# Altium integrated library Xilinx XC3000.IntLib: 584 symbols (part 8 of 27)
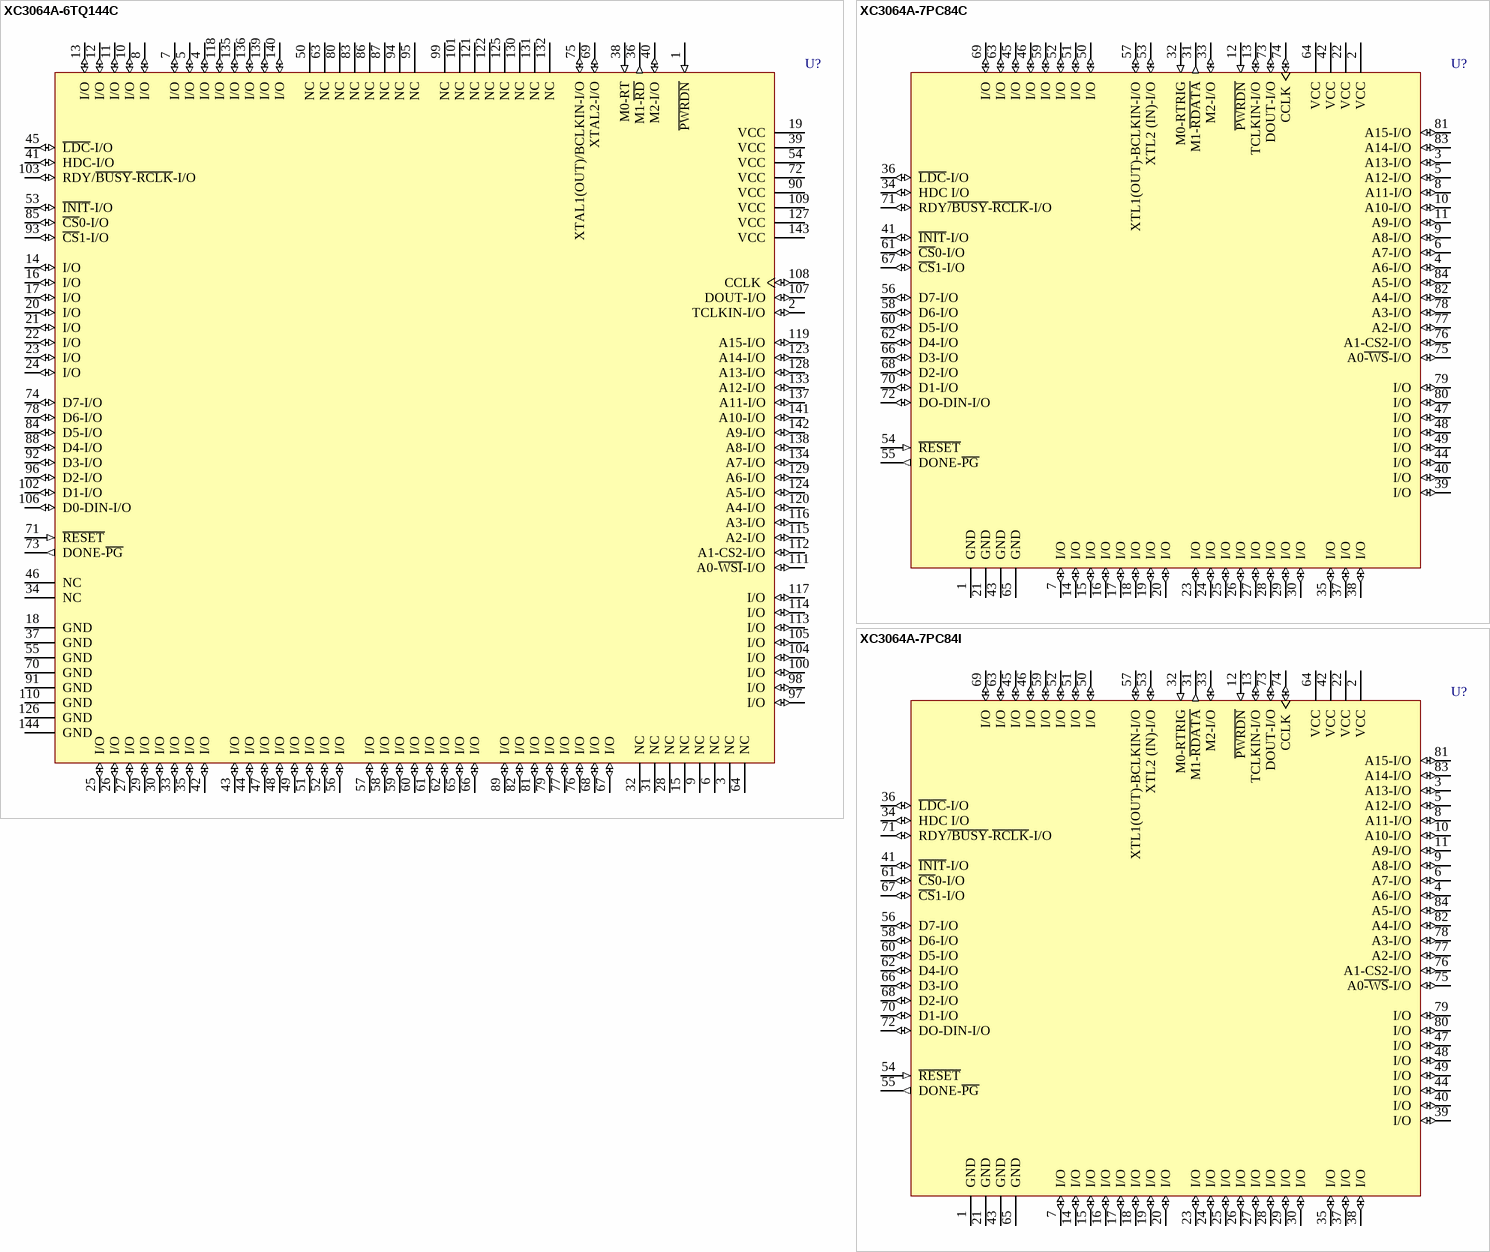
[diagram p324: symbols XC3064A-6TQ144C to XC3064A-7PC84I]

## XC3064A-7PC84I
designator U?
Logic Cell Array with 224 CLBs, with 70 I/O Pins, 84-Pin PLCC, Industrial Grade; PackageDocument: ver1.0, Jun-2000; Published: 8-Jun-2000; LatestRevisionDate: 17-Sep-2003; LatestRevisionNote: PCB Footprint dimensions updated; DatasheetDocument: 1994; PackageReference: PC84; Publisher: Altium Limited; Code_JEDEC: MS-047; Code_IPC: PLCC-84
footprint PC84 (84-Pin Plastic Leaded Chip Carrier (PC84))
pins: 1 GND (power), 2 VCC (power), 3 A13-I/O (io), 4 A6-I/O (io), 5 A12-I/O (io), 6 A7-I/O (io), 7 I/O (io), 8 A11-I/O (io), 9 A8-I/O (io), 10 A10-I/O (io), 11 A9-I/O (io), 12 ~{PWRDN} (in), 13 TCLKIN-I/O (io), 14 I/O (io), 15 I/O (io), 16 I/O (io), 17 I/O (io), 18 I/O (io), 19 I/O (io), 20 I/O (io), 21 GND (power), 22 VCC (power), 23 I/O (io), 24 I/O (io), 25 I/O (io), 26 I/O (io), 27 I/O (io), 28 I/O (io), 29 I/O (io), 30 I/O (io), 31 M1-~{RDATA} (out), 32 M0-RTRIG (in), 33 M2-I/O (io), 34 HDC I/O (io), 35 I/O (io), 36 ~{LDC}-I/O (io), 37 I/O (io), 38 I/O (io), 39 I/O (io), 40 I/O (io), 41 ~{INIT}-I/O (io), 42 VCC (power), 43 GND (power), 44 I/O (io), 45 I/O (io), 46 I/O (io), 47 I/O (io), 48 I/O (io), 49 I/O (io), 50 I/O (io), 51 I/O (io), 52 I/O (io), 53 XTL2 (IN)-I/O (io), 54 ~{RESET} (in), 55 DONE-~{PG} (out), 56 D7-I/O (io), 57 XTL1(OUT)-BCLKIN-I/O (io), 58 D6-I/O (io), 59 I/O (io), 60 D5-I/O (io), 61 ~{CS}0-I/O (io), 62 D4-I/O (io), 63 I/O (io), 64 VCC (power), 65 GND (power), 66 D3-I/O (io), 67 ~{CS}1-I/O (io), 68 D2-I/O (io), 69 I/O (io), 70 D1-I/O (io), 71 RDY~{/BUSY}-~{RCLK}-I/O (io), 72 DO-DIN-I/O (io), 73 DOUT-I/O (io), 74 CCLK (io), 75 A0~{-WS}-I/O (io), 76 A1-CS2-I/O (io), 77 A2-I/O (io), 78 A3-I/O (io), 79 I/O (io), 80 I/O (io), 81 A15-I/O (io), 82 A4-I/O (io), 83 A14-I/O (io), 84 A5-I/O (io)

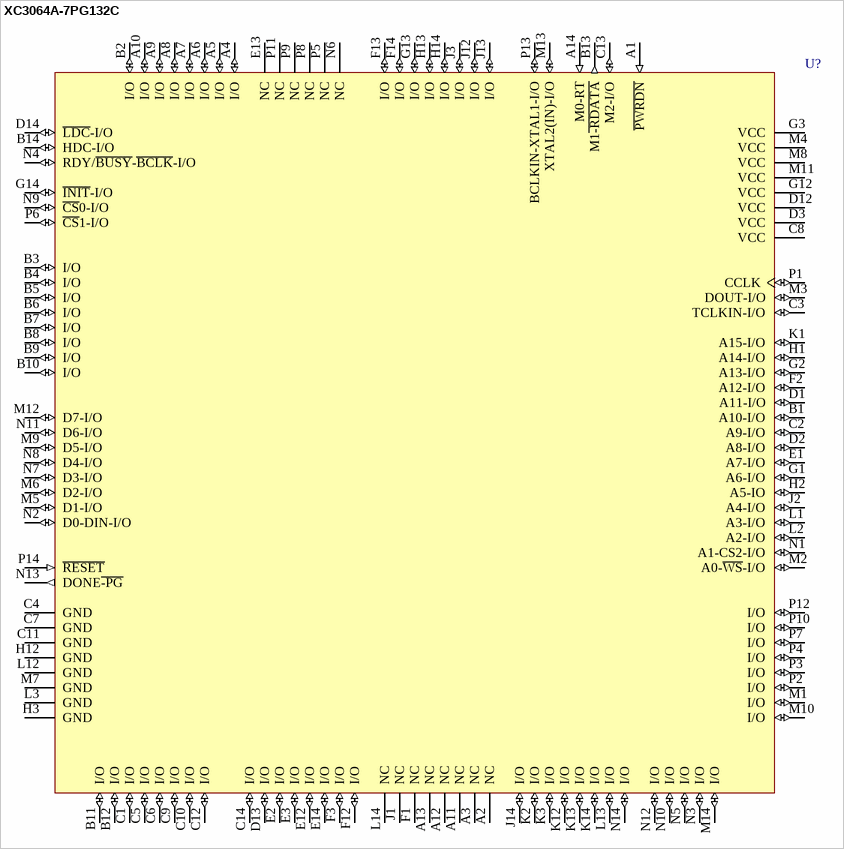
[diagram p69: symbol XC3064A-7PG132C]

## XC3064A-7PG132C
designator U?
Logic Cell Array with 224 CLBs, with 96 I/O Pins, 132-Pin PGA, Commercial Grade; PackageDocument: ver1.1, Apr-2001; Published: 8-Jun-2000; LatestRevisionDate: 17-Jul-2002; LatestRevisionNote: Re-released for DXP Platform.; DatasheetDocument: 1994; PackageReference: PG132; Publisher: Altium Limited; Code_JEDEC: MO-067-AF
footprint PG132 (132-Pin Ceramic PGA (PG132))
pins: A1 ~{PWRDN} (in), A2 NC, A3 NC, A4 I/O (io), A5 I/O (io), A6 I/O (io), A7 I/O (io), A8 I/O (io), A9 I/O (io), A10 I/O (io), A11 NC, A12 NC, A13 NC, A14 M0-RT (in), B1 A10-I/O (io), B2 I/O (io), B3 I/O (io), B4 I/O (io), B5 I/O (io), B6 I/O (io), B7 I/O (io), B8 I/O (io), B9 I/O (io), B10 I/O (io), B11 I/O (io), B12 I/O (io), B13 M1~{-RDATA} (out), B14 HDC-I/O (io), C1 I/O (io), C2 A9-I/O (io), C3 TCLKIN-I/O (io), C4 GND (power), C5 I/O (io), C6 I/O (io), C7 GND (power), C8 VCC (power), C9 I/O (io), C10 I/O (io), C11 GND (power), C12 I/O (io), C13 M2-I/O (io), C14 I/O (io), D1 A11-I/O (io), D2 A8-I/O (io), D3 VCC (power), D12 VCC (power), D13 I/O (io), D14 ~{LDC}-I/O (io), E1 A7-I/O (io), E2 I/O (io), E3 I/O (io), E12 I/O (io), E13 NC, E14 I/O (io), F1 NC, F2 A12-I/O (io), F3 I/O (io), F12 I/O (io), F13 I/O (io), F14 I/O (io), G1 A6-I/O (io), G2 A13-I/O (io), G3 VCC (power), G12 VCC (power), G13 I/O (io), G14 ~{INIT}-I/O (io), H1 A14-I/O (io), H2 A5-IO (io), H3 GND (power), H12 GND (power), H13 I/O (io), H14 I/O (io), J1 NC, J2 A4-I/O (io), J3 I/O (io), J12 I/O (io), J13 I/O (io), J14 I/O (io), K1 A15-I/O (io), K2 I/O (io), K3 I/O (io), K12 I/O (io), K13 I/O (io), K14 I/O (io), L1 A3-I/O (io), L2 A2-I/O (io), L3 GND (power), L12 GND (power), L13 I/O (io), L14 NC, M1 I/O (io), M2 A0-~{WS}-I/O (io), M3 DOUT-I/O (io), M4 VCC (power), M5 D1-I/O (io), M6 D2-I/O (io), M7 GND (power), M8 VCC (power), M9 D5-I/O (io), M10 I/O (io), M11 VCC (power), M12 D7-I/O (io), M13 XTAL2(IN)-I/O (io), M14 I/O (io), N1 A1-CS2-I/O (io), N2 D0-DIN-I/O (io), N3 I/O (io), N4 RDY/~{BUSY}-~{BCLK}-I/O (io), N5 I/O (io), N6 NC, N7 D3-I/O (io), N8 D4-I/O (io), N9 ~{CS}0-I/O (io), N10 I/O (io), N11 D6-I/O (io), N12 I/O (io), N13 DONE~{-PG} (out), N14 I/O (io), P1 CCLK (io), P2 I/O (io), P3 I/O (io), P4 I/O (io), P5 NC, P6 ~{CS}1-I/O (io), P7 I/O (io), P8 NC, P9 NC, P10 I/O (io), P11 NC, P12 I/O (io), P13 BCLKIN-XTAL1-I/O (io), P14 ~{RESET} (in)

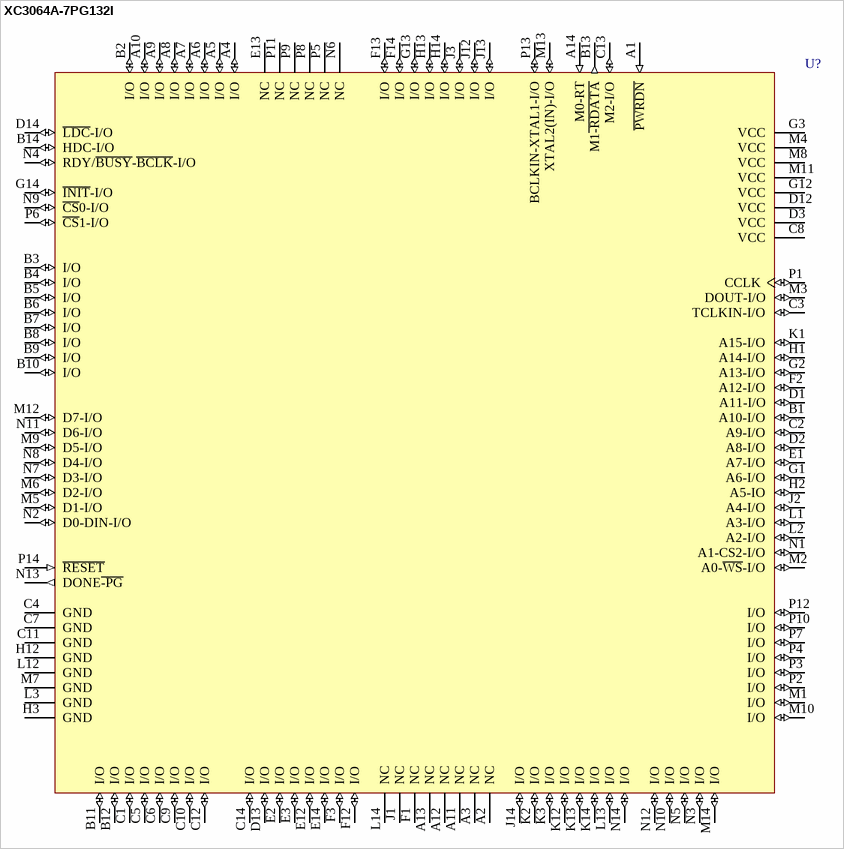
[diagram p70: symbol XC3064A-7PG132I]

## XC3064A-7PG132I
designator U?
Logic Cell Array with 224 CLBs, with 96 I/O Pins, 132-Pin PGA, Industrial Grade; PackageDocument: ver1.1, Apr-2001; Published: 8-Jun-2000; LatestRevisionDate: 17-Jul-2002; LatestRevisionNote: Re-released for DXP Platform.; DatasheetDocument: 1994; PackageReference: PG132; Publisher: Altium Limited; Code_JEDEC: MO-067-AF
footprint PG132 (132-Pin Ceramic PGA (PG132))
pins: A1 ~{PWRDN} (in), A2 NC, A3 NC, A4 I/O (io), A5 I/O (io), A6 I/O (io), A7 I/O (io), A8 I/O (io), A9 I/O (io), A10 I/O (io), A11 NC, A12 NC, A13 NC, A14 M0-RT (in), B1 A10-I/O (io), B2 I/O (io), B3 I/O (io), B4 I/O (io), B5 I/O (io), B6 I/O (io), B7 I/O (io), B8 I/O (io), B9 I/O (io), B10 I/O (io), B11 I/O (io), B12 I/O (io), B13 M1~{-RDATA} (out), B14 HDC-I/O (io), C1 I/O (io), C2 A9-I/O (io), C3 TCLKIN-I/O (io), C4 GND (power), C5 I/O (io), C6 I/O (io), C7 GND (power), C8 VCC (power), C9 I/O (io), C10 I/O (io), C11 GND (power), C12 I/O (io), C13 M2-I/O (io), C14 I/O (io), D1 A11-I/O (io), D2 A8-I/O (io), D3 VCC (power), D12 VCC (power), D13 I/O (io), D14 ~{LDC}-I/O (io), E1 A7-I/O (io), E2 I/O (io), E3 I/O (io), E12 I/O (io), E13 NC, E14 I/O (io), F1 NC, F2 A12-I/O (io), F3 I/O (io), F12 I/O (io), F13 I/O (io), F14 I/O (io), G1 A6-I/O (io), G2 A13-I/O (io), G3 VCC (power), G12 VCC (power), G13 I/O (io), G14 ~{INIT}-I/O (io), H1 A14-I/O (io), H2 A5-IO (io), H3 GND (power), H12 GND (power), H13 I/O (io), H14 I/O (io), J1 NC, J2 A4-I/O (io), J3 I/O (io), J12 I/O (io), J13 I/O (io), J14 I/O (io), K1 A15-I/O (io), K2 I/O (io), K3 I/O (io), K12 I/O (io), K13 I/O (io), K14 I/O (io), L1 A3-I/O (io), L2 A2-I/O (io), L3 GND (power), L12 GND (power), L13 I/O (io), L14 NC, M1 I/O (io), M2 A0-~{WS}-I/O (io), M3 DOUT-I/O (io), M4 VCC (power), M5 D1-I/O (io), M6 D2-I/O (io), M7 GND (power), M8 VCC (power), M9 D5-I/O (io), M10 I/O (io), M11 VCC (power), M12 D7-I/O (io), M13 XTAL2(IN)-I/O (io), M14 I/O (io), N1 A1-CS2-I/O (io), N2 D0-DIN-I/O (io), N3 I/O (io), N4 RDY/~{BUSY}-~{BCLK}-I/O (io), N5 I/O (io), N6 NC, N7 D3-I/O (io), N8 D4-I/O (io), N9 ~{CS}0-I/O (io), N10 I/O (io), N11 D6-I/O (io), N12 I/O (io), N13 DONE~{-PG} (out), N14 I/O (io), P1 CCLK (io), P2 I/O (io), P3 I/O (io), P4 I/O (io), P5 NC, P6 ~{CS}1-I/O (io), P7 I/O (io), P8 NC, P9 NC, P10 I/O (io), P11 NC, P12 I/O (io), P13 BCLKIN-XTAL1-I/O (io), P14 ~{RESET} (in)

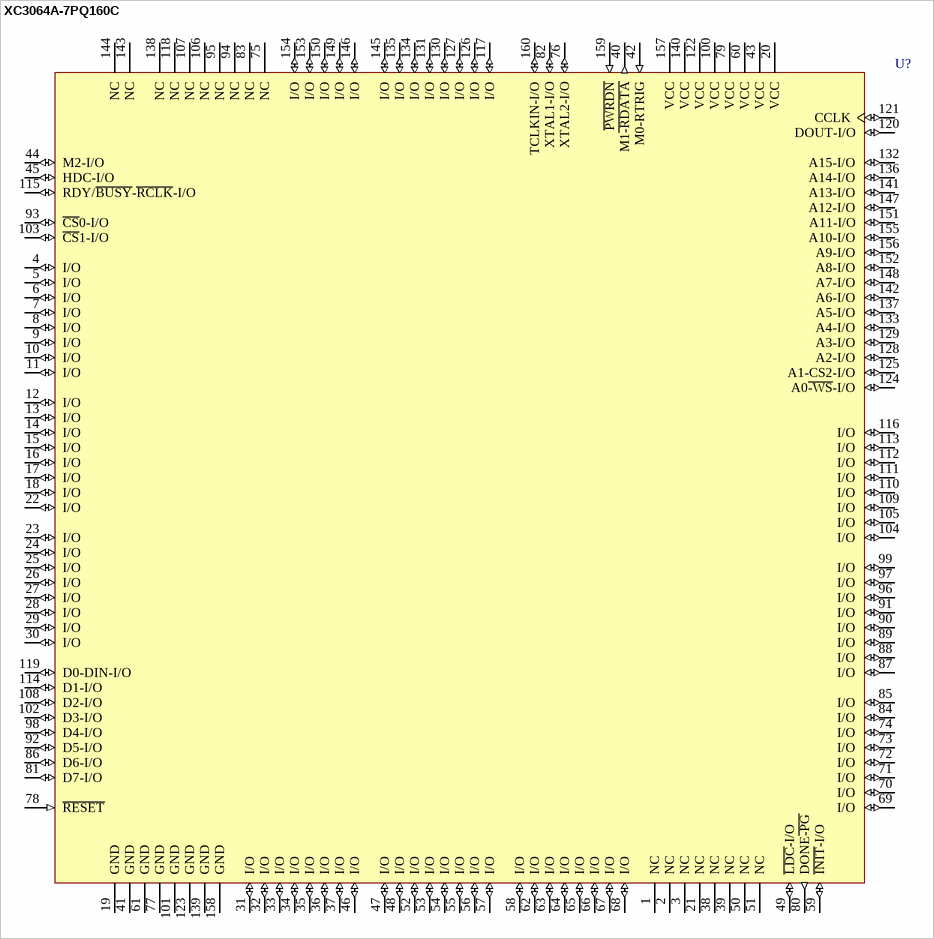
[diagram p71: symbol XC3064A-7PQ160C]

## XC3064A-7PQ160C
designator U?
Logic Cell Array with 224 CLBs, with 120 I/O Pins, 160-Pin PQFP, Commercial Grade; PackageDocument: ver1.1, Oct-2002; Published: 8-Jun-2000; LatestRevisionDate: 17-Jul-2002; LatestRevisionNote: PCB footprint, 'QFP28x28-G160/D28N' replaced; Re-released for DXP Platform.; DatasheetDocument: 1994; PackageReference: PQ160; Publisher: Altium Limited; Code_JEDEC: MS-022-DD1
footprint PQ160 (160-Pin Plastic Quad Flat Pack (PQ160))
pins: 1 NC, 2 NC, 3 NC, 4 I/O (io), 5 I/O (io), 6 I/O (io), 7 I/O (io), 8 I/O (io), 9 I/O (io), 10 I/O (io), 11 I/O (io), 12 I/O (io), 13 I/O (io), 14 I/O (io), 15 I/O (io), 16 I/O (io), 17 I/O (io), 18 I/O (io), 19 GND (power), 20 VCC (power), 21 NC, 22 I/O (io), 23 I/O (io), 24 I/O (io), 25 I/O (io), 26 I/O (io), 27 I/O (io), 28 I/O (io), 29 I/O (io), 30 I/O (io), 31 I/O (io), 32 I/O (io), 33 I/O (io), 34 I/O (io), 35 I/O (io), 36 I/O (io), 37 I/O (io), 38 NC, 39 NC, 40 M1~{-RDATA} (out), 41 GND (power), 42 M0-RTRIG (in), 43 VCC (power), 44 M2-I/O (io), 45 HDC-I/O (io), 46 I/O (io), 47 I/O (io), 48 I/O (io), 49 ~{LDC}-I/O (io), 50 NC, 51 NC, 52 I/O (io), 53 I/O (io), 54 I/O (io), 55 I/O (io), 56 I/O (io), 57 I/O (io), 58 I/O (io), 59 ~{INIT}-I/O (io), 60 VCC (power), 61 GND (power), 62 I/O (io), 63 I/O (io), 64 I/O (io), 65 I/O (io), 66 I/O (io), 67 I/O (io), 68 I/O (io), 69 I/O (io), 70 I/O (io), 71 I/O (io), 72 I/O (io), 73 I/O (io), 74 I/O (io), 75 NC, 76 XTAL2-I/O (io), 77 GND (power), 78 ~{RESET} (in), 79 VCC (power), 80 DONE~{-PG} (out), 81 D7-I/O (io), 82 XTAL1-I/O (io), 83 NC, 84 I/O (io), 85 I/O (io), 86 D6-I/O (io), 87 I/O (io), 88 I/O (io), 89 I/O (io), 90 I/O (io), 91 I/O (io), 92 D5-I/O (io), 93 ~{CS}0-I/O (io), 94 NC, 95 NC, 96 I/O (io), 97 I/O (io), 98 D4-I/O (io), 99 I/O (io), 100 VCC (power), 101 GND (power), 102 D3-I/O (io), 103 ~{CS}1-I/O (io), 104 I/O (io), 105 I/O (io), 106 NC, 107 NC, 108 D2-I/O (io), 109 I/O (io), 110 I/O (io), 111 I/O (io), 112 I/O (io), 113 I/O (io), 114 D1-I/O (io), 115 RDY/~{BUSY}-~{RCLK}-I/O (io), 116 I/O (io), 117 I/O (io), 118 NC, 119 D0-DIN-I/O (io), 120 DOUT-I/O (io), 121 CCLK (io), 122 VCC (power), 123 GND (power), 124 A0~{-WS}-I/O (io), 125 A1-CS2-I/O (io), 126 I/O (io), 127 I/O (io), 128 A2-I/O (io), 129 A3-I/O (io), 130 I/O (io), 131 I/O (io), 132 A15-I/O (io), 133 A4-I/O (io), 134 I/O (io), 135 I/O (io), 136 A14-I/O (io), 137 A5-I/O (io), 138 NC, 139 GND (power), 140 VCC (power), 141 A13-I/O (io), 142 A6-I/O (io), 143 NC, 144 NC, 145 I/O (io), 146 I/O (io), 147 A12-I/O (io), 148 A7-I/O (io), 149 I/O (io), 150 I/O (io), 151 A11-I/O (io), 152 A8-I/O (io), 153 I/O (io), 154 I/O (io), 155 A10-I/O (io), 156 A9-I/O (io), 157 VCC (power), 158 GND (power), 159 ~{PWRDN} (in), 160 TCLKIN-I/O (io)

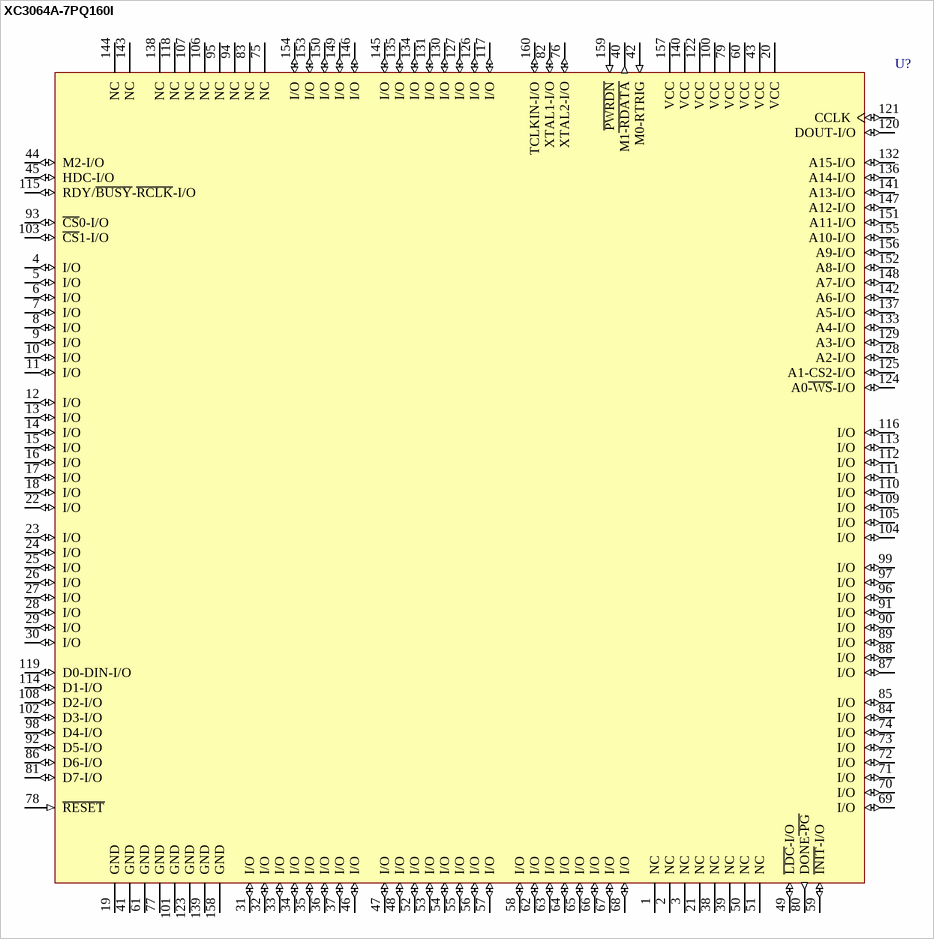
[diagram p72: symbol XC3064A-7PQ160I]

## XC3064A-7PQ160I
designator U?
Logic Cell Array with 224 CLBs, with 120 I/O Pins, 160-Pin PQFP, Industrial Grade; PackageDocument: ver1.1, Oct-2002; Published: 8-Jun-2000; LatestRevisionDate: 17-Jul-2002; LatestRevisionNote: PCB footprint, 'QFP28x28-G160/D28N' replaced; Re-released for DXP Platform.; DatasheetDocument: 1994; PackageReference: PQ160; Publisher: Altium Limited; Code_JEDEC: MS-022-DD1
footprint PQ160 (160-Pin Plastic Quad Flat Pack (PQ160))
pins: 1 NC, 2 NC, 3 NC, 4 I/O (io), 5 I/O (io), 6 I/O (io), 7 I/O (io), 8 I/O (io), 9 I/O (io), 10 I/O (io), 11 I/O (io), 12 I/O (io), 13 I/O (io), 14 I/O (io), 15 I/O (io), 16 I/O (io), 17 I/O (io), 18 I/O (io), 19 GND (power), 20 VCC (power), 21 NC, 22 I/O (io), 23 I/O (io), 24 I/O (io), 25 I/O (io), 26 I/O (io), 27 I/O (io), 28 I/O (io), 29 I/O (io), 30 I/O (io), 31 I/O (io), 32 I/O (io), 33 I/O (io), 34 I/O (io), 35 I/O (io), 36 I/O (io), 37 I/O (io), 38 NC, 39 NC, 40 M1~{-RDATA} (out), 41 GND (power), 42 M0-RTRIG (in), 43 VCC (power), 44 M2-I/O (io), 45 HDC-I/O (io), 46 I/O (io), 47 I/O (io), 48 I/O (io), 49 ~{LDC}-I/O (io), 50 NC, 51 NC, 52 I/O (io), 53 I/O (io), 54 I/O (io), 55 I/O (io), 56 I/O (io), 57 I/O (io), 58 I/O (io), 59 ~{INIT}-I/O (io), 60 VCC (power), 61 GND (power), 62 I/O (io), 63 I/O (io), 64 I/O (io), 65 I/O (io), 66 I/O (io), 67 I/O (io), 68 I/O (io), 69 I/O (io), 70 I/O (io), 71 I/O (io), 72 I/O (io), 73 I/O (io), 74 I/O (io), 75 NC, 76 XTAL2-I/O (io), 77 GND (power), 78 ~{RESET} (in), 79 VCC (power), 80 DONE~{-PG} (out), 81 D7-I/O (io), 82 XTAL1-I/O (io), 83 NC, 84 I/O (io), 85 I/O (io), 86 D6-I/O (io), 87 I/O (io), 88 I/O (io), 89 I/O (io), 90 I/O (io), 91 I/O (io), 92 D5-I/O (io), 93 ~{CS}0-I/O (io), 94 NC, 95 NC, 96 I/O (io), 97 I/O (io), 98 D4-I/O (io), 99 I/O (io), 100 VCC (power), 101 GND (power), 102 D3-I/O (io), 103 ~{CS}1-I/O (io), 104 I/O (io), 105 I/O (io), 106 NC, 107 NC, 108 D2-I/O (io), 109 I/O (io), 110 I/O (io), 111 I/O (io), 112 I/O (io), 113 I/O (io), 114 D1-I/O (io), 115 RDY/~{BUSY}-~{RCLK}-I/O (io), 116 I/O (io), 117 I/O (io), 118 NC, 119 D0-DIN-I/O (io), 120 DOUT-I/O (io), 121 CCLK (io), 122 VCC (power), 123 GND (power), 124 A0~{-WS}-I/O (io), 125 A1-CS2-I/O (io), 126 I/O (io), 127 I/O (io), 128 A2-I/O (io), 129 A3-I/O (io), 130 I/O (io), 131 I/O (io), 132 A15-I/O (io), 133 A4-I/O (io), 134 I/O (io), 135 I/O (io), 136 A14-I/O (io), 137 A5-I/O (io), 138 NC, 139 GND (power), 140 VCC (power), 141 A13-I/O (io), 142 A6-I/O (io), 143 NC, 144 NC, 145 I/O (io), 146 I/O (io), 147 A12-I/O (io), 148 A7-I/O (io), 149 I/O (io), 150 I/O (io), 151 A11-I/O (io), 152 A8-I/O (io), 153 I/O (io), 154 I/O (io), 155 A10-I/O (io), 156 A9-I/O (io), 157 VCC (power), 158 GND (power), 159 ~{PWRDN} (in), 160 TCLKIN-I/O (io)

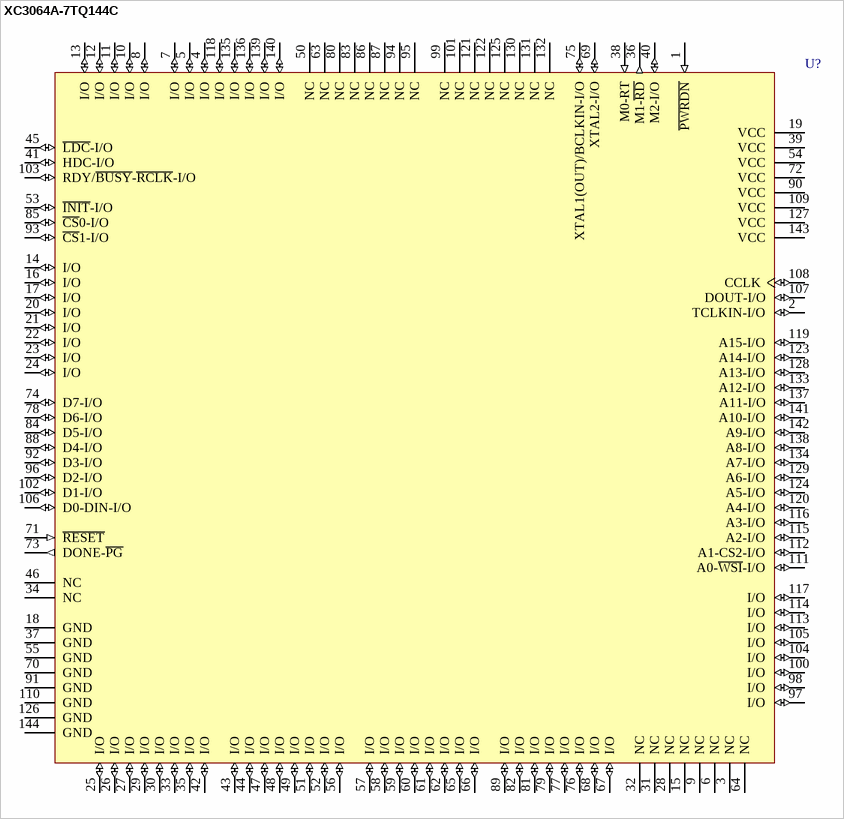
[diagram p73: symbol XC3064A-7TQ144C]

## XC3064A-7TQ144C
designator U?
Logic Cell Array with 224 CLBs, with 96 I/O Pins, 144-Pin TQFP, Commercial Grade; PackageDocument: ver1.1, Oct-2002; Published: 8-Jun-2000; LatestRevisionDate: 17-Jul-2002; LatestRevisionNote: Re-released for DXP Platform.; DatasheetDocument: 1994; PackageReference: TQ144; Publisher: Altium Limited; Code_JEDEC: MS-026-BFB; Code_IPC: SQFP20X20-144
footprint TQ144 (144-Pin Thin Quad Flat Pack (TQ144))
pins: 1 ~{PWRDN} (in), 2 TCLKIN-I/O (io), 3 NC, 4 I/O (io), 5 I/O (io), 6 NC, 7 I/O (io), 8 I/O (io), 9 NC, 10 I/O (io), 11 I/O (io), 12 I/O (io), 13 I/O (io), 14 I/O (io), 15 NC, 16 I/O (io), 17 I/O (io), 18 GND (power), 19 VCC (power), 20 I/O (io), 21 I/O (io), 22 I/O (io), 23 I/O (io), 24 I/O (io), 25 I/O (io), 26 I/O (io), 27 I/O (io), 28 NC, 29 I/O (io), 30 I/O (io), 31 NC, 32 NC, 33 I/O (io), 34 NC, 35 I/O (io), 36 M1-~{RD} (out), 37 GND (power), 38 M0-RT (in), 39 VCC (power), 40 M2-I/O (io), 41 HDC-I/O (io), 42 I/O (io), 43 I/O (io), 44 I/O (io), 45 ~{LDC}-I/O (io), 46 NC, 47 I/O (io), 48 I/O (io), 49 I/O (io), 50 NC, 51 I/O (io), 52 I/O (io), 53 ~{INIT}-I/O (io), 54 VCC (power), 55 GND (power), 56 I/O (io), 57 I/O (io), 58 I/O (io), 59 I/O (io), 60 I/O (io), 61 I/O (io), 62 I/O (io), 63 NC, 64 NC, 65 I/O (io), 66 I/O (io), 67 I/O (io), 68 I/O (io), 69 XTAL2-I/O (io), 70 GND (power), 71 ~{RESET} (in), 72 VCC (power), 73 DONE-~{PG} (out), 74 D7-I/O (io), 75 XTAL1(OUT)/BCLKIN-I/O (io), 76 I/O (io), 77 I/O (io), 78 D6-I/O (io), 79 I/O (io), 80 NC, 81 I/O (io), 82 I/O (io), 83 NC, 84 D5-I/O (io), 85 ~{CS}0-I/O (io), 86 NC, 87 NC, 88 D4-I/O (io), 89 I/O (io), 90 VCC (power), 91 GND (power), 92 D3-I/O (io), 93 ~{CS}1-I/O (io), 94 NC, 95 NC, 96 D2-I/O (io), 97 I/O (io), 98 I/O (io), 99 NC, 100 I/O (io), 101 NC, 102 D1-I/O (io), 103 RDY/~{BUSY}-~{RCLK}-I/O (io), 104 I/O (io), 105 I/O (io), 106 D0-DIN-I/O (io), 107 DOUT-I/O (io), 108 CCLK (io), 109 VCC (power), 110 GND (power), 111 A0-~{WSI}-I/O (io), 112 A1-CS2-I/O (io), 113 I/O (io), 114 I/O (io), 115 A2-I/O (io), 116 A3-I/O (io), 117 I/O (io), 118 I/O (io), 119 A15-I/O (io), 120 A4-I/O (io), 121 NC, 122 NC, 123 A14-I/O (io), 124 A5-I/O (io), 125 NC, 126 GND (power), 127 VCC (power), 128 A13-I/O (io), 129 A6-I/O (io), 130 NC, 131 NC, 132 NC, 133 A12-I/O (io), 134 A7-I/O (io), 135 I/O (io), 136 I/O (io), 137 A11-I/O (io), 138 A8-I/O (io), 139 I/O (io), 140 I/O (io), 141 A10-I/O (io), 142 A9-I/O (io), 143 VCC (power), 144 GND (power)

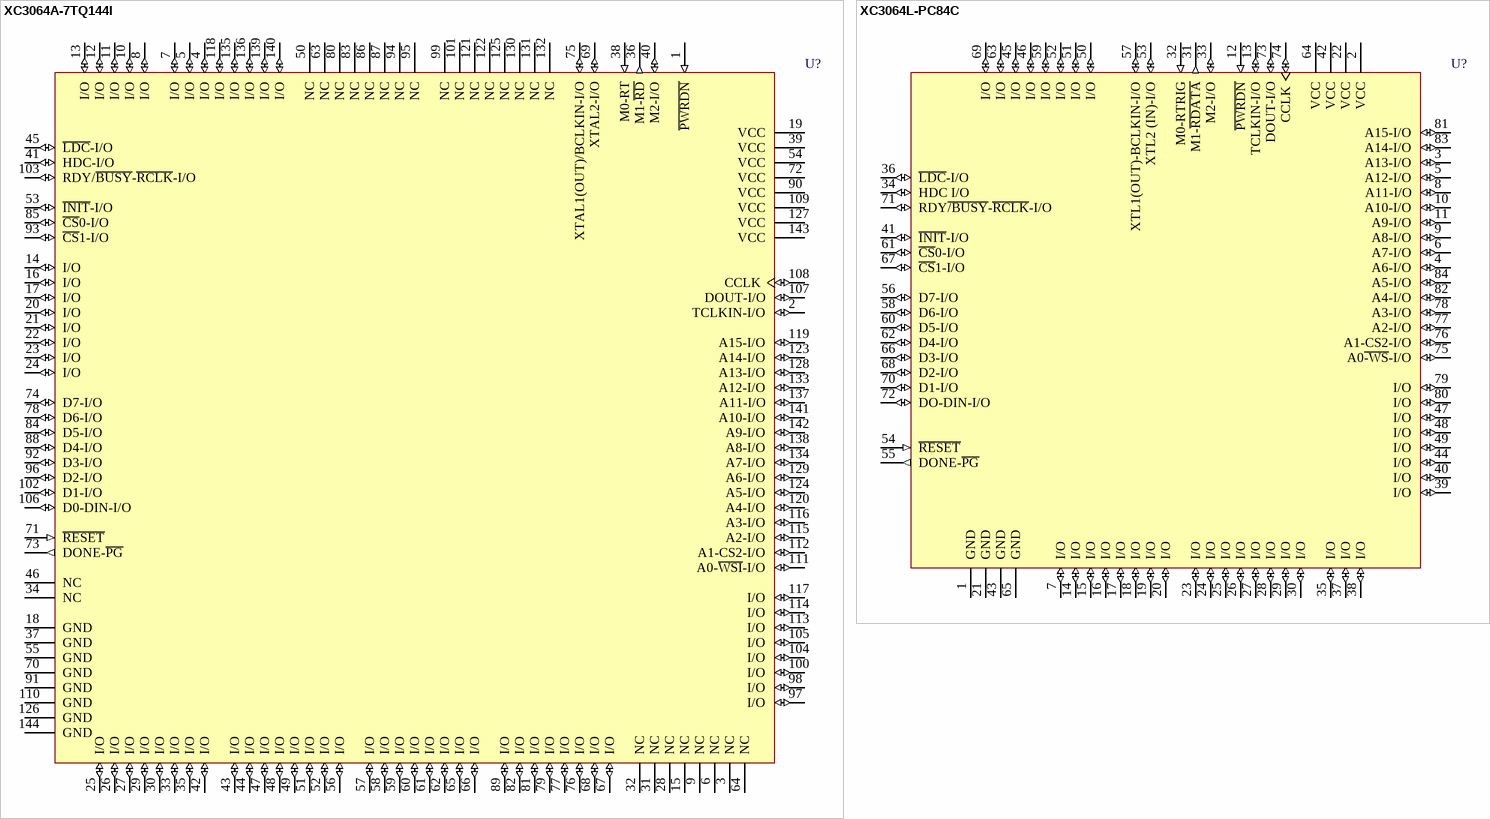
[diagram p74: symbols XC3064A-7TQ144I to XC3064L-PC84C]

## XC3064A-7TQ144I
designator U?
Logic Cell Array with 224 CLBs, with 96 I/O Pins, 144-Pin TQFP, Industrial Grade; PackageDocument: ver1.1, Oct-2002; Published: 8-Jun-2000; LatestRevisionDate: 17-Jul-2002; LatestRevisionNote: Re-released for DXP Platform.; DatasheetDocument: 1994; PackageReference: TQ144; Publisher: Altium Limited; Code_JEDEC: MS-026-BFB; Code_IPC: SQFP20X20-144
footprint TQ144 (144-Pin Thin Quad Flat Pack (TQ144))
pins: 1 ~{PWRDN} (in), 2 TCLKIN-I/O (io), 3 NC, 4 I/O (io), 5 I/O (io), 6 NC, 7 I/O (io), 8 I/O (io), 9 NC, 10 I/O (io), 11 I/O (io), 12 I/O (io), 13 I/O (io), 14 I/O (io), 15 NC, 16 I/O (io), 17 I/O (io), 18 GND (power), 19 VCC (power), 20 I/O (io), 21 I/O (io), 22 I/O (io), 23 I/O (io), 24 I/O (io), 25 I/O (io), 26 I/O (io), 27 I/O (io), 28 NC, 29 I/O (io), 30 I/O (io), 31 NC, 32 NC, 33 I/O (io), 34 NC, 35 I/O (io), 36 M1-~{RD} (out), 37 GND (power), 38 M0-RT (in), 39 VCC (power), 40 M2-I/O (io), 41 HDC-I/O (io), 42 I/O (io), 43 I/O (io), 44 I/O (io), 45 ~{LDC}-I/O (io), 46 NC, 47 I/O (io), 48 I/O (io), 49 I/O (io), 50 NC, 51 I/O (io), 52 I/O (io), 53 ~{INIT}-I/O (io), 54 VCC (power), 55 GND (power), 56 I/O (io), 57 I/O (io), 58 I/O (io), 59 I/O (io), 60 I/O (io), 61 I/O (io), 62 I/O (io), 63 NC, 64 NC, 65 I/O (io), 66 I/O (io), 67 I/O (io), 68 I/O (io), 69 XTAL2-I/O (io), 70 GND (power), 71 ~{RESET} (in), 72 VCC (power), 73 DONE-~{PG} (out), 74 D7-I/O (io), 75 XTAL1(OUT)/BCLKIN-I/O (io), 76 I/O (io), 77 I/O (io), 78 D6-I/O (io), 79 I/O (io), 80 NC, 81 I/O (io), 82 I/O (io), 83 NC, 84 D5-I/O (io), 85 ~{CS}0-I/O (io), 86 NC, 87 NC, 88 D4-I/O (io), 89 I/O (io), 90 VCC (power), 91 GND (power), 92 D3-I/O (io), 93 ~{CS}1-I/O (io), 94 NC, 95 NC, 96 D2-I/O (io), 97 I/O (io), 98 I/O (io), 99 NC, 100 I/O (io), 101 NC, 102 D1-I/O (io), 103 RDY/~{BUSY}-~{RCLK}-I/O (io), 104 I/O (io), 105 I/O (io), 106 D0-DIN-I/O (io), 107 DOUT-I/O (io), 108 CCLK (io), 109 VCC (power), 110 GND (power), 111 A0-~{WSI}-I/O (io), 112 A1-CS2-I/O (io), 113 I/O (io), 114 I/O (io), 115 A2-I/O (io), 116 A3-I/O (io), 117 I/O (io), 118 I/O (io), 119 A15-I/O (io), 120 A4-I/O (io), 121 NC, 122 NC, 123 A14-I/O (io), 124 A5-I/O (io), 125 NC, 126 GND (power), 127 VCC (power), 128 A13-I/O (io), 129 A6-I/O (io), 130 NC, 131 NC, 132 NC, 133 A12-I/O (io), 134 A7-I/O (io), 135 I/O (io), 136 I/O (io), 137 A11-I/O (io), 138 A8-I/O (io), 139 I/O (io), 140 I/O (io), 141 A10-I/O (io), 142 A9-I/O (io), 143 VCC (power), 144 GND (power)

## XC3064L-PC84C
designator U?
Logic Cell Array with 224 CLBs, with 70 I/O Pins, 84-Pin PLCC, Commercial Grade; PackageDocument: ver1.0, Jun-2000; Published: 8-Jun-2000; LatestRevisionDate: 17-Sep-2003; LatestRevisionNote: PCB Footprint dimensions updated; DatasheetDocument: 1994; PackageReference: PC84; Publisher: Altium Limited; Code_JEDEC: MS-047; Code_IPC: PLCC-84
footprint PC84 (84-Pin Plastic Leaded Chip Carrier (PC84))
pins: 1 GND (power), 2 VCC (power), 3 A13-I/O (io), 4 A6-I/O (io), 5 A12-I/O (io), 6 A7-I/O (io), 7 I/O (io), 8 A11-I/O (io), 9 A8-I/O (io), 10 A10-I/O (io), 11 A9-I/O (io), 12 ~{PWRDN} (in), 13 TCLKIN-I/O (io), 14 I/O (io), 15 I/O (io), 16 I/O (io), 17 I/O (io), 18 I/O (io), 19 I/O (io), 20 I/O (io), 21 GND (power), 22 VCC (power), 23 I/O (io), 24 I/O (io), 25 I/O (io), 26 I/O (io), 27 I/O (io), 28 I/O (io), 29 I/O (io), 30 I/O (io), 31 M1-~{RDATA} (out), 32 M0-RTRIG (in), 33 M2-I/O (io), 34 HDC I/O (io), 35 I/O (io), 36 ~{LDC}-I/O (io), 37 I/O (io), 38 I/O (io), 39 I/O (io), 40 I/O (io), 41 ~{INIT}-I/O (io), 42 VCC (power), 43 GND (power), 44 I/O (io), 45 I/O (io), 46 I/O (io), 47 I/O (io), 48 I/O (io), 49 I/O (io), 50 I/O (io), 51 I/O (io), 52 I/O (io), 53 XTL2 (IN)-I/O (io), 54 ~{RESET} (in), 55 DONE-~{PG} (out), 56 D7-I/O (io), 57 XTL1(OUT)-BCLKIN-I/O (io), 58 D6-I/O (io), 59 I/O (io), 60 D5-I/O (io), 61 ~{CS}0-I/O (io), 62 D4-I/O (io), 63 I/O (io), 64 VCC (power), 65 GND (power), 66 D3-I/O (io), 67 ~{CS}1-I/O (io), 68 D2-I/O (io), 69 I/O (io), 70 D1-I/O (io), 71 RDY~{/BUSY}-~{RCLK}-I/O (io), 72 DO-DIN-I/O (io), 73 DOUT-I/O (io), 74 CCLK (io), 75 A0~{-WS}-I/O (io), 76 A1-CS2-I/O (io), 77 A2-I/O (io), 78 A3-I/O (io), 79 I/O (io), 80 I/O (io), 81 A15-I/O (io), 82 A4-I/O (io), 83 A14-I/O (io), 84 A5-I/O (io)

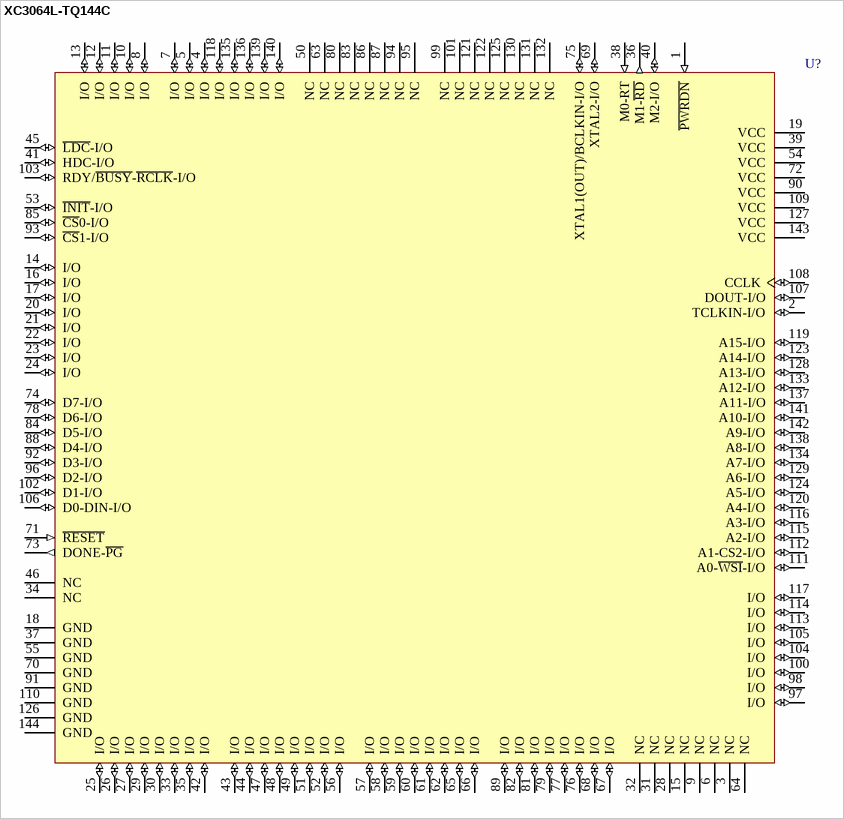
[diagram p75: symbol XC3064L-TQ144C]

## XC3064L-TQ144C
designator U?
Logic Cell Array with 224 CLBs, with 96 I/O Pins, 144-Pin TQFP, Commercial Grade; PackageDocument: ver1.1, Oct-2002; Published: 8-Jun-2000; LatestRevisionDate: 17-Jul-2002; LatestRevisionNote: Re-released for DXP Platform.; DatasheetDocument: 1994; PackageReference: TQ144; Publisher: Altium Limited; Code_JEDEC: MS-026-BFB; Code_IPC: SQFP20X20-144
footprint TQ144 (144-Pin Thin Quad Flat Pack (TQ144))
pins: 1 ~{PWRDN} (in), 2 TCLKIN-I/O (io), 3 NC, 4 I/O (io), 5 I/O (io), 6 NC, 7 I/O (io), 8 I/O (io), 9 NC, 10 I/O (io), 11 I/O (io), 12 I/O (io), 13 I/O (io), 14 I/O (io), 15 NC, 16 I/O (io), 17 I/O (io), 18 GND (power), 19 VCC (power), 20 I/O (io), 21 I/O (io), 22 I/O (io), 23 I/O (io), 24 I/O (io), 25 I/O (io), 26 I/O (io), 27 I/O (io), 28 NC, 29 I/O (io), 30 I/O (io), 31 NC, 32 NC, 33 I/O (io), 34 NC, 35 I/O (io), 36 M1-~{RD} (out), 37 GND (power), 38 M0-RT (in), 39 VCC (power), 40 M2-I/O (io), 41 HDC-I/O (io), 42 I/O (io), 43 I/O (io), 44 I/O (io), 45 ~{LDC}-I/O (io), 46 NC, 47 I/O (io), 48 I/O (io), 49 I/O (io), 50 NC, 51 I/O (io), 52 I/O (io), 53 ~{INIT}-I/O (io), 54 VCC (power), 55 GND (power), 56 I/O (io), 57 I/O (io), 58 I/O (io), 59 I/O (io), 60 I/O (io), 61 I/O (io), 62 I/O (io), 63 NC, 64 NC, 65 I/O (io), 66 I/O (io), 67 I/O (io), 68 I/O (io), 69 XTAL2-I/O (io), 70 GND (power), 71 ~{RESET} (in), 72 VCC (power), 73 DONE-~{PG} (out), 74 D7-I/O (io), 75 XTAL1(OUT)/BCLKIN-I/O (io), 76 I/O (io), 77 I/O (io), 78 D6-I/O (io), 79 I/O (io), 80 NC, 81 I/O (io), 82 I/O (io), 83 NC, 84 D5-I/O (io), 85 ~{CS}0-I/O (io), 86 NC, 87 NC, 88 D4-I/O (io), 89 I/O (io), 90 VCC (power), 91 GND (power), 92 D3-I/O (io), 93 ~{CS}1-I/O (io), 94 NC, 95 NC, 96 D2-I/O (io), 97 I/O (io), 98 I/O (io), 99 NC, 100 I/O (io), 101 NC, 102 D1-I/O (io), 103 RDY/~{BUSY}-~{RCLK}-I/O (io), 104 I/O (io), 105 I/O (io), 106 D0-DIN-I/O (io), 107 DOUT-I/O (io), 108 CCLK (io), 109 VCC (power), 110 GND (power), 111 A0-~{WSI}-I/O (io), 112 A1-CS2-I/O (io), 113 I/O (io), 114 I/O (io), 115 A2-I/O (io), 116 A3-I/O (io), 117 I/O (io), 118 I/O (io), 119 A15-I/O (io), 120 A4-I/O (io), 121 NC, 122 NC, 123 A14-I/O (io), 124 A5-I/O (io), 125 NC, 126 GND (power), 127 VCC (power), 128 A13-I/O (io), 129 A6-I/O (io), 130 NC, 131 NC, 132 NC, 133 A12-I/O (io), 134 A7-I/O (io), 135 I/O (io), 136 I/O (io), 137 A11-I/O (io), 138 A8-I/O (io), 139 I/O (io), 140 I/O (io), 141 A10-I/O (io), 142 A9-I/O (io), 143 VCC (power), 144 GND (power)

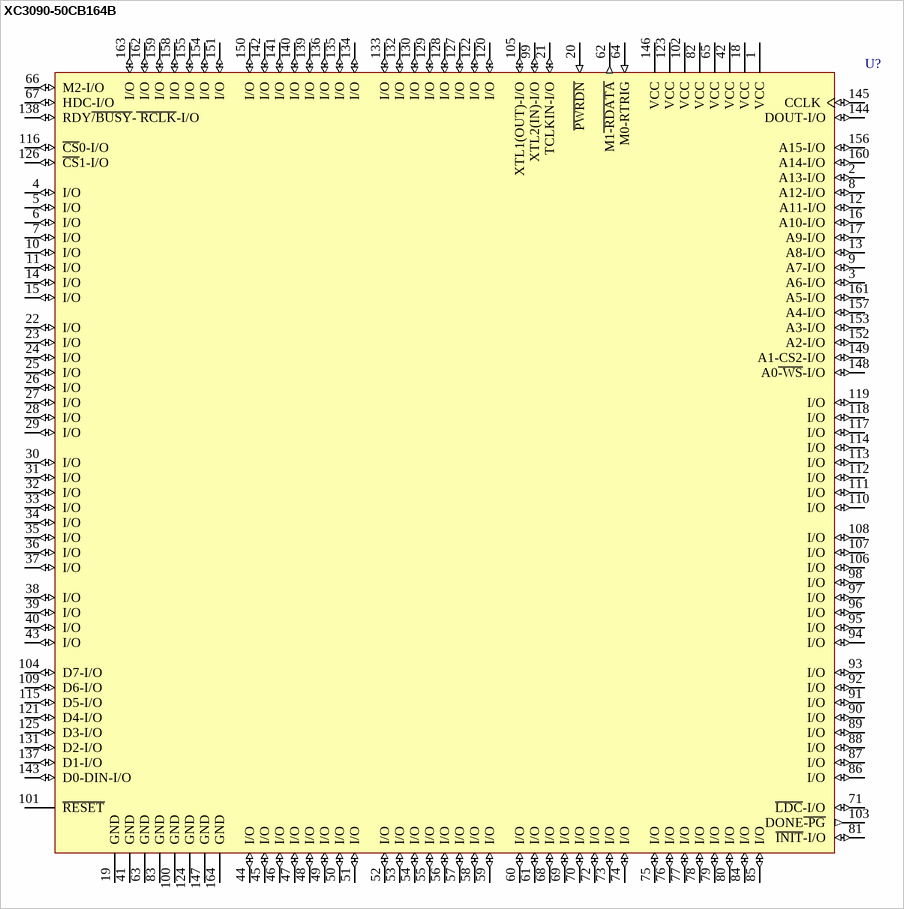
[diagram p76: symbol XC3090-50CB164B]

## XC3090-50CB164B
designator U?
Logic Cell Array with 320 CLBs, with 142 I/O Pins, 164-Pin CQFP, Military Class B Grade; PackageDocument: ver1.0, Jun-2000; Published: 8-Jun-2000; LatestRevisionDate: 17-Jul-2002; LatestRevisionNote: Re-released for DXP Platform.; DatasheetDocument: 1994; PackageReference: CB164; Publisher: Altium Limited
footprint CB164 (164-Pin Ceramic Brazed CQFP (CB164))
pins: 1 VCC (power), 2 A13-I/O (io), 3 A6-I/O (io), 4 I/O (io), 5 I/O (io), 6 I/O (io), 7 I/O (io), 8 A12-I/O (io), 9 A7-I/O (io), 10 I/O (io), 11 I/O (io), 12 A11-I/O (io), 13 A8-I/O (io), 14 I/O (io), 15 I/O (io), 16 A10-I/O (io), 17 A9-I/O (io), 18 VCC (power), 19 GND (power), 20 ~{PWRDN} (in), 21 TCLKIN-I/O (io), 22 I/O (io), 23 I/O (io), 24 I/O (io), 25 I/O (io), 26 I/O (io), 27 I/O (io), 28 I/O (io), 29 I/O (io), 30 I/O (io), 31 I/O (io), 32 I/O (io), 33 I/O (io), 34 I/O (io), 35 I/O (io), 36 I/O (io), 37 I/O (io), 38 I/O (io), 39 I/O (io), 40 I/O (io), 41 GND (power), 42 VCC (power), 43 I/O (io), 44 I/O (io), 45 I/O (io), 46 I/O (io), 47 I/O (io), 48 I/O (io), 49 I/O (io), 50 I/O (io), 51 I/O (io), 52 I/O (io), 53 I/O (io), 54 I/O (io), 55 I/O (io), 56 I/O (io), 57 I/O (io), 58 I/O (io), 59 I/O (io), 60 I/O (io), 61 I/O (io), 62 M1~{-RDATA} (out), 63 GND (power), 64 M0-RTRIG (in), 65 VCC (power), 66 M2-I/O (io), 67 HDC-I/O (io), 68 I/O (io), 69 I/O (io), 70 I/O (io), 71 ~{LDC}-I/O (io), 72 I/O (io), 73 I/O (io), 74 I/O (io), 75 I/O (io), 76 I/O (io), 77 I/O (io), 78 I/O (io), 79 I/O (io), 80 I/O (io), 81 ~{INIT}-I/O (io), 82 VCC (power), 83 GND (power), 84 I/O (io), 85 I/O (io), 86 I/O (io), 87 I/O (io), 88 I/O (io), 89 I/O (io), 90 I/O (io), 91 I/O (io), 92 I/O (io), 93 I/O (io), 94 I/O (io), 95 I/O (io), 96 I/O (io), 97 I/O (io), 98 I/O (io), 99 XTL2(IN)-I/O (io), 100 GND (power), 101 ~{RESET} (oe), 102 VCC (power), 103 DONE~{-PG} (out), 104 D7-I/O (io), 105 XTL1(OUT)-I/O (io), 106 I/O (io), 107 I/O (io), 108 I/O (io), 109 D6-I/O (io), 110 I/O (io), 111 I/O (io), 112 I/O (io), 113 I/O (io), 114 I/O (io), 115 D5-I/O (io), 116 ~{CS}0-I/O (io), 117 I/O (io), 118 I/O (io), 119 I/O (io), 120 I/O (io), 121 D4-I/O (io), 122 I/O (io), 123 VCC (power), 124 GND (power), 125 D3-I/O (io), 126 ~{CS}1-I/O (io), 127 I/O (io), 128 I/O (io), 129 I/O (io), 130 I/O (io), 131 D2-I/O (io), 132 I/O (io), 133 I/O (io), 134 I/O (io), 135 I/O (io), 136 I/O (io), 137 D1-I/O (io), 138 RDY~{/BUSY}-~{ RCLK}-I/O (io), 139 I/O (io), 140 I/O (io), 141 I/O (io), 142 I/O (io), 143 D0-DIN-I/O (io), 144 DOUT-I/O (io), 145 CCLK (io), 146 VCC (power), 147 GND (power), 148 A0~{-WS}-I/O (io), 149 A1-CS2-I/O (io), 150 I/O (io), 151 I/O (io), 152 A2-I/O (io), 153 A3-I/O (io), 154 I/O (io), 155 I/O (io), 156 A15-I/O (io), 157 A4-I/O (io), 158 I/O (io), 159 I/O (io), 160 A14-I/O (io), 161 A5-I/O (io), 162 I/O (io), 163 I/O (io), 164 GND (power)

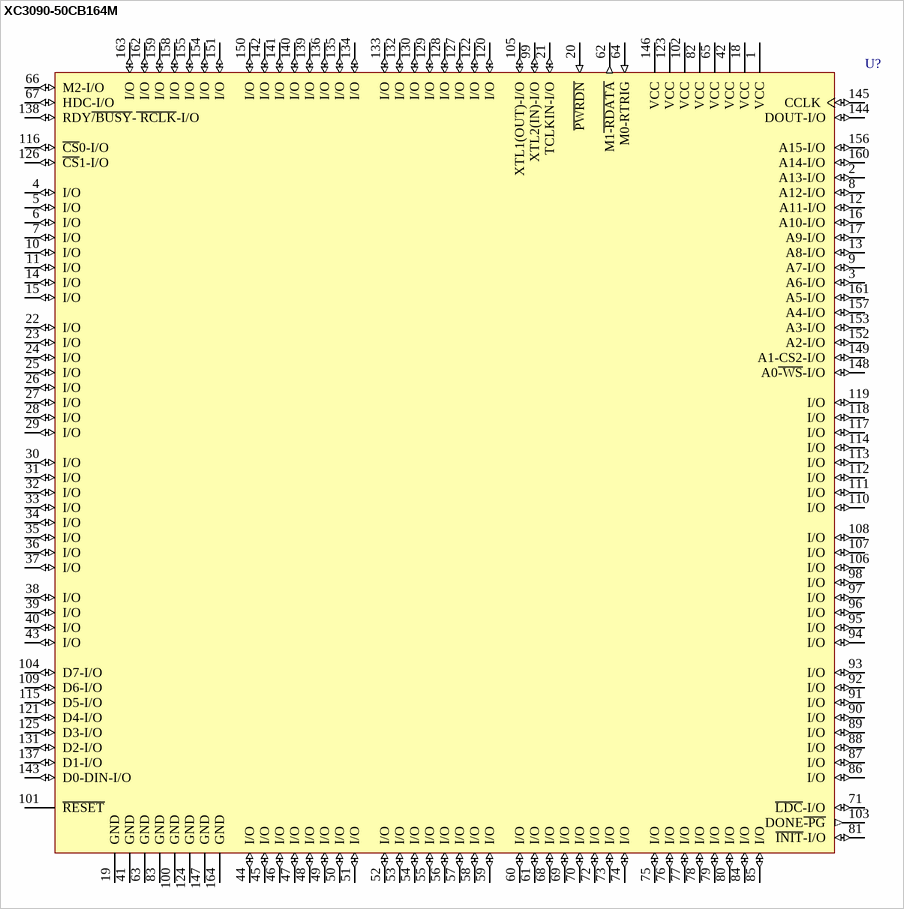
[diagram p77: symbol XC3090-50CB164M]

## XC3090-50CB164M
designator U?
Logic Cell Array with 320 CLBs, with 142 I/O Pins, 164-Pin CQFP, Military Grade; PackageDocument: ver1.0, Jun-2000; Published: 8-Jun-2000; LatestRevisionDate: 17-Jul-2002; LatestRevisionNote: Re-released for DXP Platform.; DatasheetDocument: 1994; PackageReference: CB164; Publisher: Altium Limited
footprint CB164 (164-Pin Ceramic Brazed CQFP (CB164))
pins: 1 VCC (power), 2 A13-I/O (io), 3 A6-I/O (io), 4 I/O (io), 5 I/O (io), 6 I/O (io), 7 I/O (io), 8 A12-I/O (io), 9 A7-I/O (io), 10 I/O (io), 11 I/O (io), 12 A11-I/O (io), 13 A8-I/O (io), 14 I/O (io), 15 I/O (io), 16 A10-I/O (io), 17 A9-I/O (io), 18 VCC (power), 19 GND (power), 20 ~{PWRDN} (in), 21 TCLKIN-I/O (io), 22 I/O (io), 23 I/O (io), 24 I/O (io), 25 I/O (io), 26 I/O (io), 27 I/O (io), 28 I/O (io), 29 I/O (io), 30 I/O (io), 31 I/O (io), 32 I/O (io), 33 I/O (io), 34 I/O (io), 35 I/O (io), 36 I/O (io), 37 I/O (io), 38 I/O (io), 39 I/O (io), 40 I/O (io), 41 GND (power), 42 VCC (power), 43 I/O (io), 44 I/O (io), 45 I/O (io), 46 I/O (io), 47 I/O (io), 48 I/O (io), 49 I/O (io), 50 I/O (io), 51 I/O (io), 52 I/O (io), 53 I/O (io), 54 I/O (io), 55 I/O (io), 56 I/O (io), 57 I/O (io), 58 I/O (io), 59 I/O (io), 60 I/O (io), 61 I/O (io), 62 M1~{-RDATA} (out), 63 GND (power), 64 M0-RTRIG (in), 65 VCC (power), 66 M2-I/O (io), 67 HDC-I/O (io), 68 I/O (io), 69 I/O (io), 70 I/O (io), 71 ~{LDC}-I/O (io), 72 I/O (io), 73 I/O (io), 74 I/O (io), 75 I/O (io), 76 I/O (io), 77 I/O (io), 78 I/O (io), 79 I/O (io), 80 I/O (io), 81 ~{INIT}-I/O (io), 82 VCC (power), 83 GND (power), 84 I/O (io), 85 I/O (io), 86 I/O (io), 87 I/O (io), 88 I/O (io), 89 I/O (io), 90 I/O (io), 91 I/O (io), 92 I/O (io), 93 I/O (io), 94 I/O (io), 95 I/O (io), 96 I/O (io), 97 I/O (io), 98 I/O (io), 99 XTL2(IN)-I/O (io), 100 GND (power), 101 ~{RESET} (oe), 102 VCC (power), 103 DONE~{-PG} (out), 104 D7-I/O (io), 105 XTL1(OUT)-I/O (io), 106 I/O (io), 107 I/O (io), 108 I/O (io), 109 D6-I/O (io), 110 I/O (io), 111 I/O (io), 112 I/O (io), 113 I/O (io), 114 I/O (io), 115 D5-I/O (io), 116 ~{CS}0-I/O (io), 117 I/O (io), 118 I/O (io), 119 I/O (io), 120 I/O (io), 121 D4-I/O (io), 122 I/O (io), 123 VCC (power), 124 GND (power), 125 D3-I/O (io), 126 ~{CS}1-I/O (io), 127 I/O (io), 128 I/O (io), 129 I/O (io), 130 I/O (io), 131 D2-I/O (io), 132 I/O (io), 133 I/O (io), 134 I/O (io), 135 I/O (io), 136 I/O (io), 137 D1-I/O (io), 138 RDY~{/BUSY}-~{ RCLK}-I/O (io), 139 I/O (io), 140 I/O (io), 141 I/O (io), 142 I/O (io), 143 D0-DIN-I/O (io), 144 DOUT-I/O (io), 145 CCLK (io), 146 VCC (power), 147 GND (power), 148 A0~{-WS}-I/O (io), 149 A1-CS2-I/O (io), 150 I/O (io), 151 I/O (io), 152 A2-I/O (io), 153 A3-I/O (io), 154 I/O (io), 155 I/O (io), 156 A15-I/O (io), 157 A4-I/O (io), 158 I/O (io), 159 I/O (io), 160 A14-I/O (io), 161 A5-I/O (io), 162 I/O (io), 163 I/O (io), 164 GND (power)

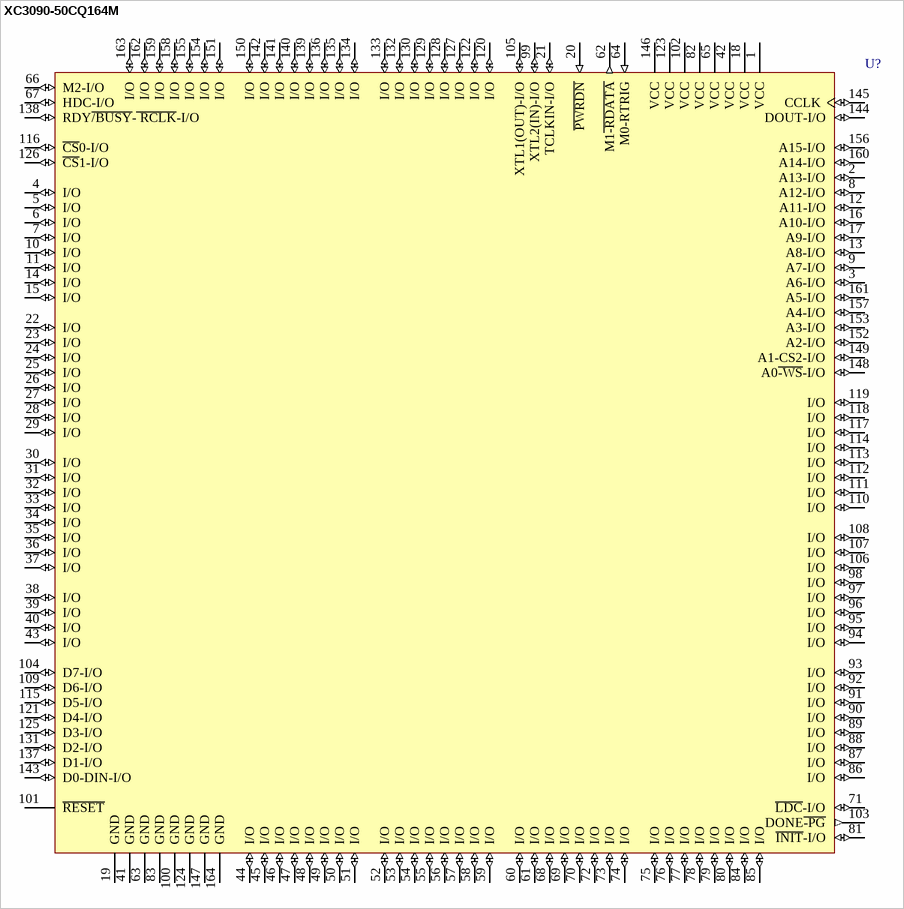
[diagram p78: symbol XC3090-50CQ164M]

## XC3090-50CQ164M
designator U?
Logic Cell Array with 320 CLBs, with 142 I/O Pins, 164-Pin CQFP, Military Grade; PackageDocument: ver1.0, Jun-2000; Published: 8-Jun-2000; LatestRevisionDate: 17-Jul-2002; LatestRevisionNote: Re-released for DXP Platform.; DatasheetDocument: 1989; PackageReference: CB164; Publisher: Altium Limited
footprint CB164 (164-Pin Ceramic Brazed CQFP (CB164))
pins: 1 VCC (power), 2 A13-I/O (io), 3 A6-I/O (io), 4 I/O (io), 5 I/O (io), 6 I/O (io), 7 I/O (io), 8 A12-I/O (io), 9 A7-I/O (io), 10 I/O (io), 11 I/O (io), 12 A11-I/O (io), 13 A8-I/O (io), 14 I/O (io), 15 I/O (io), 16 A10-I/O (io), 17 A9-I/O (io), 18 VCC (power), 19 GND (power), 20 ~{PWRDN} (in), 21 TCLKIN-I/O (io), 22 I/O (io), 23 I/O (io), 24 I/O (io), 25 I/O (io), 26 I/O (io), 27 I/O (io), 28 I/O (io), 29 I/O (io), 30 I/O (io), 31 I/O (io), 32 I/O (io), 33 I/O (io), 34 I/O (io), 35 I/O (io), 36 I/O (io), 37 I/O (io), 38 I/O (io), 39 I/O (io), 40 I/O (io), 41 GND (power), 42 VCC (power), 43 I/O (io), 44 I/O (io), 45 I/O (io), 46 I/O (io), 47 I/O (io), 48 I/O (io), 49 I/O (io), 50 I/O (io), 51 I/O (io), 52 I/O (io), 53 I/O (io), 54 I/O (io), 55 I/O (io), 56 I/O (io), 57 I/O (io), 58 I/O (io), 59 I/O (io), 60 I/O (io), 61 I/O (io), 62 M1~{-RDATA} (out), 63 GND (power), 64 M0-RTRIG (in), 65 VCC (power), 66 M2-I/O (io), 67 HDC-I/O (io), 68 I/O (io), 69 I/O (io), 70 I/O (io), 71 ~{LDC}-I/O (io), 72 I/O (io), 73 I/O (io), 74 I/O (io), 75 I/O (io), 76 I/O (io), 77 I/O (io), 78 I/O (io), 79 I/O (io), 80 I/O (io), 81 ~{INIT}-I/O (io), 82 VCC (power), 83 GND (power), 84 I/O (io), 85 I/O (io), 86 I/O (io), 87 I/O (io), 88 I/O (io), 89 I/O (io), 90 I/O (io), 91 I/O (io), 92 I/O (io), 93 I/O (io), 94 I/O (io), 95 I/O (io), 96 I/O (io), 97 I/O (io), 98 I/O (io), 99 XTL2(IN)-I/O (io), 100 GND (power), 101 ~{RESET} (oe), 102 VCC (power), 103 DONE~{-PG} (out), 104 D7-I/O (io), 105 XTL1(OUT)-I/O (io), 106 I/O (io), 107 I/O (io), 108 I/O (io), 109 D6-I/O (io), 110 I/O (io), 111 I/O (io), 112 I/O (io), 113 I/O (io), 114 I/O (io), 115 D5-I/O (io), 116 ~{CS}0-I/O (io), 117 I/O (io), 118 I/O (io), 119 I/O (io), 120 I/O (io), 121 D4-I/O (io), 122 I/O (io), 123 VCC (power), 124 GND (power), 125 D3-I/O (io), 126 ~{CS}1-I/O (io), 127 I/O (io), 128 I/O (io), 129 I/O (io), 130 I/O (io), 131 D2-I/O (io), 132 I/O (io), 133 I/O (io), 134 I/O (io), 135 I/O (io), 136 I/O (io), 137 D1-I/O (io), 138 RDY~{/BUSY}-~{ RCLK}-I/O (io), 139 I/O (io), 140 I/O (io), 141 I/O (io), 142 I/O (io), 143 D0-DIN-I/O (io), 144 DOUT-I/O (io), 145 CCLK (io), 146 VCC (power), 147 GND (power), 148 A0~{-WS}-I/O (io), 149 A1-CS2-I/O (io), 150 I/O (io), 151 I/O (io), 152 A2-I/O (io), 153 A3-I/O (io), 154 I/O (io), 155 I/O (io), 156 A15-I/O (io), 157 A4-I/O (io), 158 I/O (io), 159 I/O (io), 160 A14-I/O (io), 161 A5-I/O (io), 162 I/O (io), 163 I/O (io), 164 GND (power)

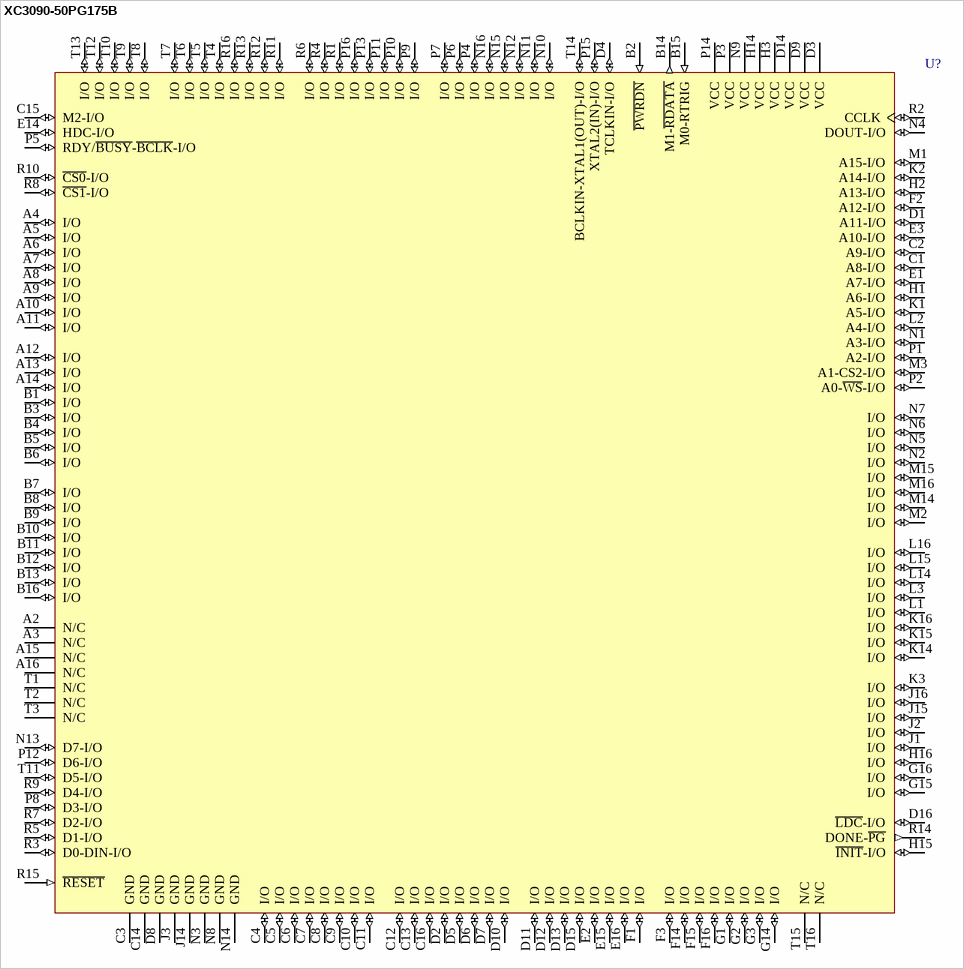
[diagram p79: symbol XC3090-50PG175B]

## XC3090-50PG175B
designator U?
Logic Cell Array with 320 CLBs, with 144 I/O Pins, 175-Pin PGA, Military Class B Grade; PackageDocument: ver1.1, Apr-2001; Published: 8-Jun-2000; LatestRevisionDate: 17-Jul-2002; LatestRevisionNote: Re-released for DXP Platform.; DatasheetDocument: 1994; PackageReference: PG175; Publisher: Altium Limited; Code_JEDEC: MO-067-AH
footprint PG175 (175-Pin Ceramic PGA (PG175))
pins: A2 N/C, A3 N/C, A4 I/O (io), A5 I/O (io), A6 I/O (io), A7 I/O (io), A8 I/O (io), A9 I/O (io), A10 I/O (io), A11 I/O (io), A12 I/O (io), A13 I/O (io), A14 I/O (io), A15 N/C, A16 N/C, B1 I/O (io), B2 ~{PWRDN} (in), B3 I/O (io), B4 I/O (io), B5 I/O (io), B6 I/O (io), B7 I/O (io), B8 I/O (io), B9 I/O (io), B10 I/O (io), B11 I/O (io), B12 I/O (io), B13 I/O (io), B14 M1-~{RDATA} (out), B15 M0-RTRIG (in), B16 I/O (io), C1 A8-I/O (io), C2 A9-I/O (io), C3 GND (power), C4 I/O (io), C5 I/O (io), C6 I/O (io), C7 I/O (io), C8 I/O (io), C9 I/O (io), C10 I/O (io), C11 I/O (io), C12 I/O (io), C13 I/O (io), C14 GND (power), C15 M2-I/O (io), C16 I/O (io), D1 A11-I/O (io), D2 I/O (io), D3 VCC (power), D4 TCLKIN-I/O (io), D5 I/O (io), D6 I/O (io), D7 I/O (io), D8 GND (power), D9 VCC (power), D10 I/O (io), D11 I/O (io), D12 I/O (io), D13 I/O (io), D14 VCC (power), D15 I/O (io), D16 ~{LDC}-I/O (io), E1 A7-I/O (io), E2 I/O (io), E3 A10-I/O (io), E14 HDC-I/O (io), E15 I/O (io), E16 I/O (io), F1 I/O (io), F2 A12-I/O (io), F3 I/O (io), F14 I/O (io), F15 I/O (io), F16 I/O (io), G1 I/O (io), G2 I/O (io), G3 I/O (io), G14 I/O (io), G15 I/O (io), G16 I/O (io), H1 A6-I/O (io), H2 A13-I/O (io), H3 VCC (power), H14 VCC (power), H15 ~{INIT}-I/O (io), H16 I/O (io), J1 I/O (io), J2 I/O (io), J3 GND (power), J14 GND (power), J15 I/O (io), J16 I/O (io), K1 A5-I/O (io), K2 A14-I/O (io), K3 I/O (io), K14 I/O (io), K15 I/O (io), K16 I/O (io), L1 I/O (io), L2 A4-I/O (io), L3 I/O (io), L14 I/O (io), L15 I/O (io), L16 I/O (io), M1 A15-I/O (io), M2 I/O (io), M3 A1-CS2-I/O (io), M14 I/O (io), M15 I/O (io), M16 I/O (io), N1 A3-I/O (io), N2 I/O (io), N3 GND (power), N4 DOUT-I/O (io), N5 I/O (io), N6 I/O (io), N7 I/O (io), N8 GND (power), N9 VCC (power), N10 I/O (io), N11 I/O (io), N12 I/O (io), N13 D7-I/O (io), N14 GND (power), N15 I/O (io), N16 I/O (io), P1 A2-I/O (io), P2 A0-~{WS}-I/O (io), P3 VCC (power), P4 I/O (io), P5 RDY/~{BUSY}-~{BCLK}-I/O (io), P6 I/O (io), P7 I/O (io), P8 D3-I/O (io), P9 I/O (io), P10 I/O (io), P11 I/O (io), P12 D6-I/O (io), P13 I/O (io), P14 VCC (power), P15 XTAL2(IN)-I/O (io), P16 I/O (io), R1 I/O (io), R2 CCLK (io), R3 D0-DIN-I/O (io), R4 I/O (io), R5 D1-I/O (io), R6 I/O (io), R7 D2-I/O (io), R8 ~{CS1}-I/O (io), R9 D4-I/O (io), R10 ~{CS0}-I/O (io), R11 I/O (io), R12 I/O (io), R13 I/O (io), R14 DONE-~{PG} (out), R15 ~{RESET} (in), R16 I/O (io), T1 N/C, T2 N/C, T3 N/C, T4 I/O (io), T5 I/O (io), T6 I/O (io), T7 I/O (io), T8 I/O (io), T9 I/O (io), T10 I/O (io), T11 D5-I/O (io), T12 I/O (io), T13 I/O (io), T14 BCLKIN-XTAL1(OUT)-I/O (io), T15 N/C, T16 N/C

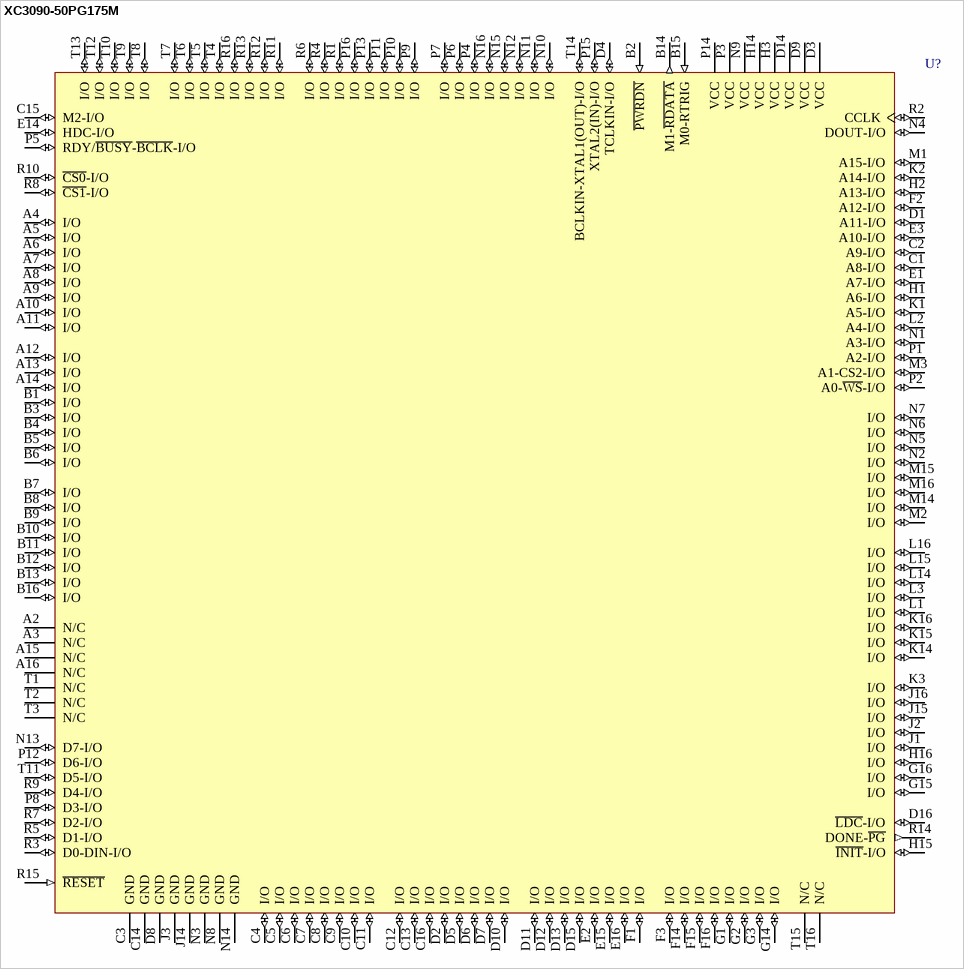
[diagram p80: symbol XC3090-50PG175M]

## XC3090-50PG175M
designator U?
Logic Cell Array with 320 CLBs, with 144 I/O Pins, 175-Pin PGA, Military Grade; PackageDocument: ver1.1, Apr-2001; Published: 8-Jun-2000; LatestRevisionDate: 17-Jul-2002; LatestRevisionNote: Re-released for DXP Platform.; DatasheetDocument: 1994; PackageReference: PG175; Publisher: Altium Limited; Code_JEDEC: MO-067-AH
footprint PG175 (175-Pin Ceramic PGA (PG175))
pins: A2 N/C, A3 N/C, A4 I/O (io), A5 I/O (io), A6 I/O (io), A7 I/O (io), A8 I/O (io), A9 I/O (io), A10 I/O (io), A11 I/O (io), A12 I/O (io), A13 I/O (io), A14 I/O (io), A15 N/C, A16 N/C, B1 I/O (io), B2 ~{PWRDN} (in), B3 I/O (io), B4 I/O (io), B5 I/O (io), B6 I/O (io), B7 I/O (io), B8 I/O (io), B9 I/O (io), B10 I/O (io), B11 I/O (io), B12 I/O (io), B13 I/O (io), B14 M1-~{RDATA} (out), B15 M0-RTRIG (in), B16 I/O (io), C1 A8-I/O (io), C2 A9-I/O (io), C3 GND (power), C4 I/O (io), C5 I/O (io), C6 I/O (io), C7 I/O (io), C8 I/O (io), C9 I/O (io), C10 I/O (io), C11 I/O (io), C12 I/O (io), C13 I/O (io), C14 GND (power), C15 M2-I/O (io), C16 I/O (io), D1 A11-I/O (io), D2 I/O (io), D3 VCC (power), D4 TCLKIN-I/O (io), D5 I/O (io), D6 I/O (io), D7 I/O (io), D8 GND (power), D9 VCC (power), D10 I/O (io), D11 I/O (io), D12 I/O (io), D13 I/O (io), D14 VCC (power), D15 I/O (io), D16 ~{LDC}-I/O (io), E1 A7-I/O (io), E2 I/O (io), E3 A10-I/O (io), E14 HDC-I/O (io), E15 I/O (io), E16 I/O (io), F1 I/O (io), F2 A12-I/O (io), F3 I/O (io), F14 I/O (io), F15 I/O (io), F16 I/O (io), G1 I/O (io), G2 I/O (io), G3 I/O (io), G14 I/O (io), G15 I/O (io), G16 I/O (io), H1 A6-I/O (io), H2 A13-I/O (io), H3 VCC (power), H14 VCC (power), H15 ~{INIT}-I/O (io), H16 I/O (io), J1 I/O (io), J2 I/O (io), J3 GND (power), J14 GND (power), J15 I/O (io), J16 I/O (io), K1 A5-I/O (io), K2 A14-I/O (io), K3 I/O (io), K14 I/O (io), K15 I/O (io), K16 I/O (io), L1 I/O (io), L2 A4-I/O (io), L3 I/O (io), L14 I/O (io), L15 I/O (io), L16 I/O (io), M1 A15-I/O (io), M2 I/O (io), M3 A1-CS2-I/O (io), M14 I/O (io), M15 I/O (io), M16 I/O (io), N1 A3-I/O (io), N2 I/O (io), N3 GND (power), N4 DOUT-I/O (io), N5 I/O (io), N6 I/O (io), N7 I/O (io), N8 GND (power), N9 VCC (power), N10 I/O (io), N11 I/O (io), N12 I/O (io), N13 D7-I/O (io), N14 GND (power), N15 I/O (io), N16 I/O (io), P1 A2-I/O (io), P2 A0-~{WS}-I/O (io), P3 VCC (power), P4 I/O (io), P5 RDY/~{BUSY}-~{BCLK}-I/O (io), P6 I/O (io), P7 I/O (io), P8 D3-I/O (io), P9 I/O (io), P10 I/O (io), P11 I/O (io), P12 D6-I/O (io), P13 I/O (io), P14 VCC (power), P15 XTAL2(IN)-I/O (io), P16 I/O (io), R1 I/O (io), R2 CCLK (io), R3 D0-DIN-I/O (io), R4 I/O (io), R5 D1-I/O (io), R6 I/O (io), R7 D2-I/O (io), R8 ~{CS1}-I/O (io), R9 D4-I/O (io), R10 ~{CS0}-I/O (io), R11 I/O (io), R12 I/O (io), R13 I/O (io), R14 DONE-~{PG} (out), R15 ~{RESET} (in), R16 I/O (io), T1 N/C, T2 N/C, T3 N/C, T4 I/O (io), T5 I/O (io), T6 I/O (io), T7 I/O (io), T8 I/O (io), T9 I/O (io), T10 I/O (io), T11 D5-I/O (io), T12 I/O (io), T13 I/O (io), T14 BCLKIN-XTAL1(OUT)-I/O (io), T15 N/C, T16 N/C

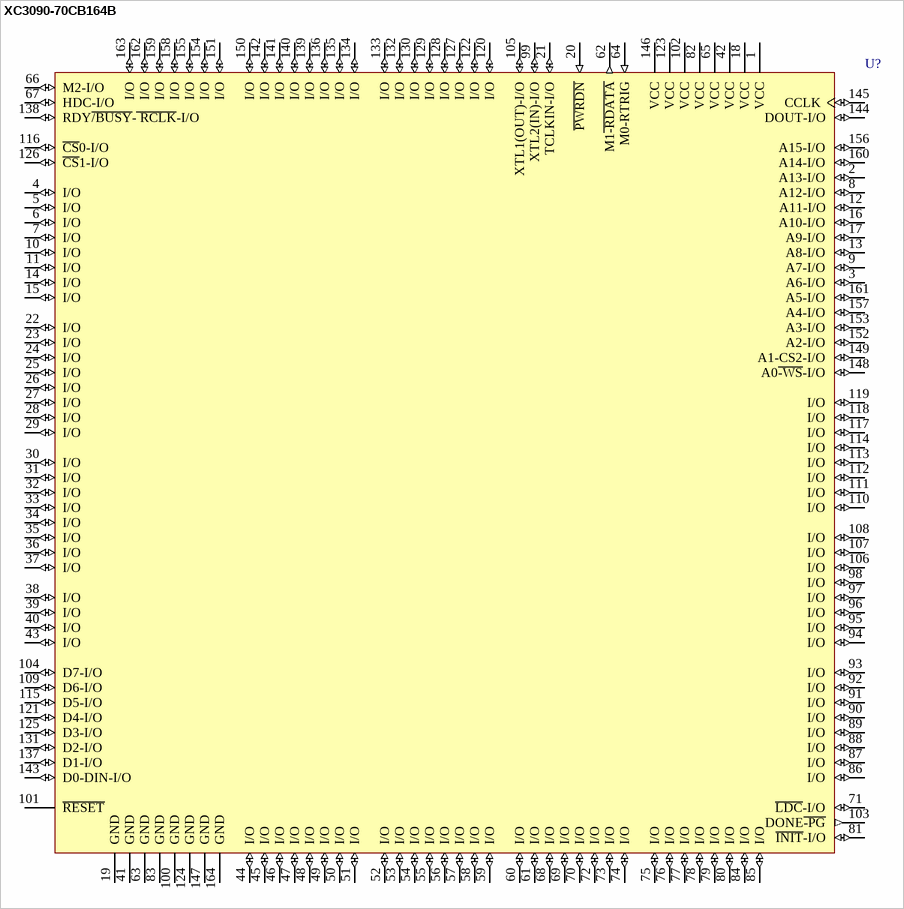
[diagram p81: symbol XC3090-70CB164B]

## XC3090-70CB164B
designator U?
Logic Cell Array with 320 CLBs, with 142 I/O Pins, 164-Pin CQFP, Military Class B Grade; PackageDocument: ver1.0, Jun-2000; Published: 8-Jun-2000; LatestRevisionDate: 17-Jul-2002; LatestRevisionNote: Re-released for DXP Platform.; DatasheetDocument: 1994; PackageReference: CB164; Publisher: Altium Limited
footprint CB164 (164-Pin Ceramic Brazed CQFP (CB164))
pins: 1 VCC (power), 2 A13-I/O (io), 3 A6-I/O (io), 4 I/O (io), 5 I/O (io), 6 I/O (io), 7 I/O (io), 8 A12-I/O (io), 9 A7-I/O (io), 10 I/O (io), 11 I/O (io), 12 A11-I/O (io), 13 A8-I/O (io), 14 I/O (io), 15 I/O (io), 16 A10-I/O (io), 17 A9-I/O (io), 18 VCC (power), 19 GND (power), 20 ~{PWRDN} (in), 21 TCLKIN-I/O (io), 22 I/O (io), 23 I/O (io), 24 I/O (io), 25 I/O (io), 26 I/O (io), 27 I/O (io), 28 I/O (io), 29 I/O (io), 30 I/O (io), 31 I/O (io), 32 I/O (io), 33 I/O (io), 34 I/O (io), 35 I/O (io), 36 I/O (io), 37 I/O (io), 38 I/O (io), 39 I/O (io), 40 I/O (io), 41 GND (power), 42 VCC (power), 43 I/O (io), 44 I/O (io), 45 I/O (io), 46 I/O (io), 47 I/O (io), 48 I/O (io), 49 I/O (io), 50 I/O (io), 51 I/O (io), 52 I/O (io), 53 I/O (io), 54 I/O (io), 55 I/O (io), 56 I/O (io), 57 I/O (io), 58 I/O (io), 59 I/O (io), 60 I/O (io), 61 I/O (io), 62 M1~{-RDATA} (out), 63 GND (power), 64 M0-RTRIG (in), 65 VCC (power), 66 M2-I/O (io), 67 HDC-I/O (io), 68 I/O (io), 69 I/O (io), 70 I/O (io), 71 ~{LDC}-I/O (io), 72 I/O (io), 73 I/O (io), 74 I/O (io), 75 I/O (io), 76 I/O (io), 77 I/O (io), 78 I/O (io), 79 I/O (io), 80 I/O (io), 81 ~{INIT}-I/O (io), 82 VCC (power), 83 GND (power), 84 I/O (io), 85 I/O (io), 86 I/O (io), 87 I/O (io), 88 I/O (io), 89 I/O (io), 90 I/O (io), 91 I/O (io), 92 I/O (io), 93 I/O (io), 94 I/O (io), 95 I/O (io), 96 I/O (io), 97 I/O (io), 98 I/O (io), 99 XTL2(IN)-I/O (io), 100 GND (power), 101 ~{RESET} (oe), 102 VCC (power), 103 DONE~{-PG} (out), 104 D7-I/O (io), 105 XTL1(OUT)-I/O (io), 106 I/O (io), 107 I/O (io), 108 I/O (io), 109 D6-I/O (io), 110 I/O (io), 111 I/O (io), 112 I/O (io), 113 I/O (io), 114 I/O (io), 115 D5-I/O (io), 116 ~{CS}0-I/O (io), 117 I/O (io), 118 I/O (io), 119 I/O (io), 120 I/O (io), 121 D4-I/O (io), 122 I/O (io), 123 VCC (power), 124 GND (power), 125 D3-I/O (io), 126 ~{CS}1-I/O (io), 127 I/O (io), 128 I/O (io), 129 I/O (io), 130 I/O (io), 131 D2-I/O (io), 132 I/O (io), 133 I/O (io), 134 I/O (io), 135 I/O (io), 136 I/O (io), 137 D1-I/O (io), 138 RDY~{/BUSY}-~{ RCLK}-I/O (io), 139 I/O (io), 140 I/O (io), 141 I/O (io), 142 I/O (io), 143 D0-DIN-I/O (io), 144 DOUT-I/O (io), 145 CCLK (io), 146 VCC (power), 147 GND (power), 148 A0~{-WS}-I/O (io), 149 A1-CS2-I/O (io), 150 I/O (io), 151 I/O (io), 152 A2-I/O (io), 153 A3-I/O (io), 154 I/O (io), 155 I/O (io), 156 A15-I/O (io), 157 A4-I/O (io), 158 I/O (io), 159 I/O (io), 160 A14-I/O (io), 161 A5-I/O (io), 162 I/O (io), 163 I/O (io), 164 GND (power)

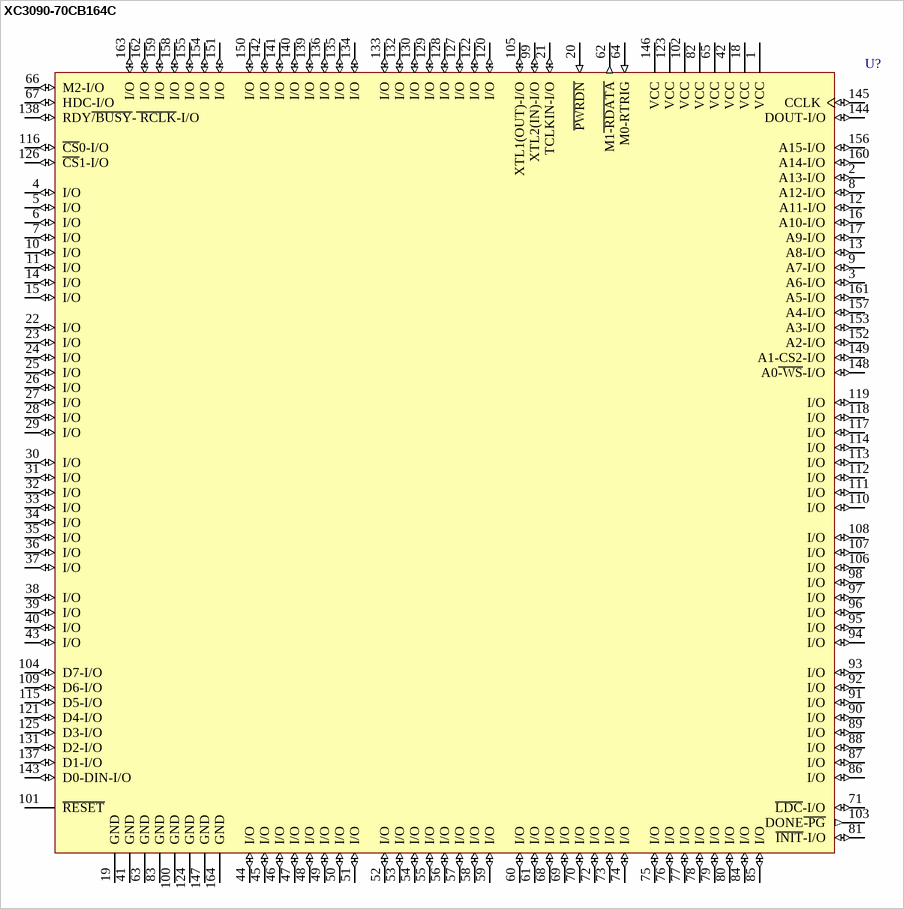
[diagram p82: symbol XC3090-70CB164C]

## XC3090-70CB164C
designator U?
Logic Cell Array with 320 CLBs, with 142 I/O Pins, 164-Pin CQFP, Commercial Grade; PackageDocument: ver1.0, Jun-2000; Published: 8-Jun-2000; LatestRevisionDate: 17-Jul-2002; LatestRevisionNote: Re-released for DXP Platform.; DatasheetDocument: 1994; PackageReference: CB164; Publisher: Altium Limited
footprint CB164 (164-Pin Ceramic Brazed CQFP (CB164))
pins: 1 VCC (power), 2 A13-I/O (io), 3 A6-I/O (io), 4 I/O (io), 5 I/O (io), 6 I/O (io), 7 I/O (io), 8 A12-I/O (io), 9 A7-I/O (io), 10 I/O (io), 11 I/O (io), 12 A11-I/O (io), 13 A8-I/O (io), 14 I/O (io), 15 I/O (io), 16 A10-I/O (io), 17 A9-I/O (io), 18 VCC (power), 19 GND (power), 20 ~{PWRDN} (in), 21 TCLKIN-I/O (io), 22 I/O (io), 23 I/O (io), 24 I/O (io), 25 I/O (io), 26 I/O (io), 27 I/O (io), 28 I/O (io), 29 I/O (io), 30 I/O (io), 31 I/O (io), 32 I/O (io), 33 I/O (io), 34 I/O (io), 35 I/O (io), 36 I/O (io), 37 I/O (io), 38 I/O (io), 39 I/O (io), 40 I/O (io), 41 GND (power), 42 VCC (power), 43 I/O (io), 44 I/O (io), 45 I/O (io), 46 I/O (io), 47 I/O (io), 48 I/O (io), 49 I/O (io), 50 I/O (io), 51 I/O (io), 52 I/O (io), 53 I/O (io), 54 I/O (io), 55 I/O (io), 56 I/O (io), 57 I/O (io), 58 I/O (io), 59 I/O (io), 60 I/O (io), 61 I/O (io), 62 M1~{-RDATA} (out), 63 GND (power), 64 M0-RTRIG (in), 65 VCC (power), 66 M2-I/O (io), 67 HDC-I/O (io), 68 I/O (io), 69 I/O (io), 70 I/O (io), 71 ~{LDC}-I/O (io), 72 I/O (io), 73 I/O (io), 74 I/O (io), 75 I/O (io), 76 I/O (io), 77 I/O (io), 78 I/O (io), 79 I/O (io), 80 I/O (io), 81 ~{INIT}-I/O (io), 82 VCC (power), 83 GND (power), 84 I/O (io), 85 I/O (io), 86 I/O (io), 87 I/O (io), 88 I/O (io), 89 I/O (io), 90 I/O (io), 91 I/O (io), 92 I/O (io), 93 I/O (io), 94 I/O (io), 95 I/O (io), 96 I/O (io), 97 I/O (io), 98 I/O (io), 99 XTL2(IN)-I/O (io), 100 GND (power), 101 ~{RESET} (oe), 102 VCC (power), 103 DONE~{-PG} (out), 104 D7-I/O (io), 105 XTL1(OUT)-I/O (io), 106 I/O (io), 107 I/O (io), 108 I/O (io), 109 D6-I/O (io), 110 I/O (io), 111 I/O (io), 112 I/O (io), 113 I/O (io), 114 I/O (io), 115 D5-I/O (io), 116 ~{CS}0-I/O (io), 117 I/O (io), 118 I/O (io), 119 I/O (io), 120 I/O (io), 121 D4-I/O (io), 122 I/O (io), 123 VCC (power), 124 GND (power), 125 D3-I/O (io), 126 ~{CS}1-I/O (io), 127 I/O (io), 128 I/O (io), 129 I/O (io), 130 I/O (io), 131 D2-I/O (io), 132 I/O (io), 133 I/O (io), 134 I/O (io), 135 I/O (io), 136 I/O (io), 137 D1-I/O (io), 138 RDY~{/BUSY}-~{ RCLK}-I/O (io), 139 I/O (io), 140 I/O (io), 141 I/O (io), 142 I/O (io), 143 D0-DIN-I/O (io), 144 DOUT-I/O (io), 145 CCLK (io), 146 VCC (power), 147 GND (power), 148 A0~{-WS}-I/O (io), 149 A1-CS2-I/O (io), 150 I/O (io), 151 I/O (io), 152 A2-I/O (io), 153 A3-I/O (io), 154 I/O (io), 155 I/O (io), 156 A15-I/O (io), 157 A4-I/O (io), 158 I/O (io), 159 I/O (io), 160 A14-I/O (io), 161 A5-I/O (io), 162 I/O (io), 163 I/O (io), 164 GND (power)

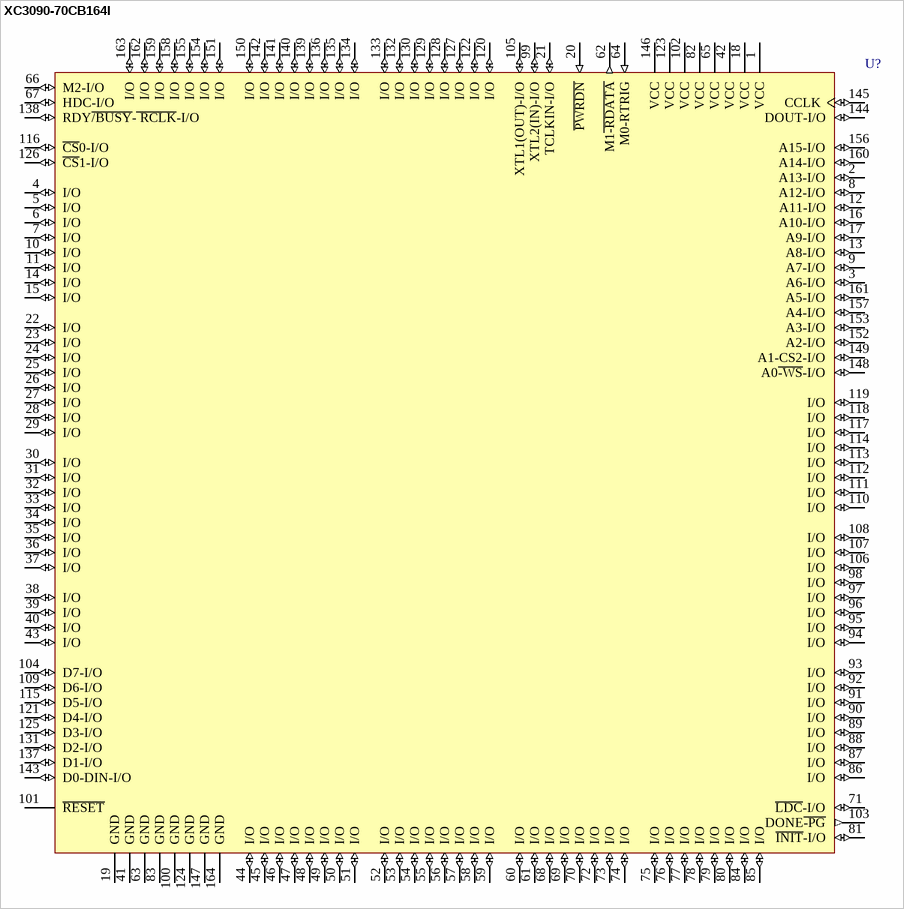
[diagram p83: symbol XC3090-70CB164I]

## XC3090-70CB164I
designator U?
Logic Cell Array with 320 CLBs, with 142 I/O Pins, 164-Pin CQFP, Industrial Grade; PackageDocument: ver1.0, Jun-2000; Published: 8-Jun-2000; LatestRevisionDate: 17-Jul-2002; LatestRevisionNote: Re-released for DXP Platform.; DatasheetDocument: 1994; PackageReference: CB164; Publisher: Altium Limited
footprint CB164 (164-Pin Ceramic Brazed CQFP (CB164))
pins: 1 VCC (power), 2 A13-I/O (io), 3 A6-I/O (io), 4 I/O (io), 5 I/O (io), 6 I/O (io), 7 I/O (io), 8 A12-I/O (io), 9 A7-I/O (io), 10 I/O (io), 11 I/O (io), 12 A11-I/O (io), 13 A8-I/O (io), 14 I/O (io), 15 I/O (io), 16 A10-I/O (io), 17 A9-I/O (io), 18 VCC (power), 19 GND (power), 20 ~{PWRDN} (in), 21 TCLKIN-I/O (io), 22 I/O (io), 23 I/O (io), 24 I/O (io), 25 I/O (io), 26 I/O (io), 27 I/O (io), 28 I/O (io), 29 I/O (io), 30 I/O (io), 31 I/O (io), 32 I/O (io), 33 I/O (io), 34 I/O (io), 35 I/O (io), 36 I/O (io), 37 I/O (io), 38 I/O (io), 39 I/O (io), 40 I/O (io), 41 GND (power), 42 VCC (power), 43 I/O (io), 44 I/O (io), 45 I/O (io), 46 I/O (io), 47 I/O (io), 48 I/O (io), 49 I/O (io), 50 I/O (io), 51 I/O (io), 52 I/O (io), 53 I/O (io), 54 I/O (io), 55 I/O (io), 56 I/O (io), 57 I/O (io), 58 I/O (io), 59 I/O (io), 60 I/O (io), 61 I/O (io), 62 M1~{-RDATA} (out), 63 GND (power), 64 M0-RTRIG (in), 65 VCC (power), 66 M2-I/O (io), 67 HDC-I/O (io), 68 I/O (io), 69 I/O (io), 70 I/O (io), 71 ~{LDC}-I/O (io), 72 I/O (io), 73 I/O (io), 74 I/O (io), 75 I/O (io), 76 I/O (io), 77 I/O (io), 78 I/O (io), 79 I/O (io), 80 I/O (io), 81 ~{INIT}-I/O (io), 82 VCC (power), 83 GND (power), 84 I/O (io), 85 I/O (io), 86 I/O (io), 87 I/O (io), 88 I/O (io), 89 I/O (io), 90 I/O (io), 91 I/O (io), 92 I/O (io), 93 I/O (io), 94 I/O (io), 95 I/O (io), 96 I/O (io), 97 I/O (io), 98 I/O (io), 99 XTL2(IN)-I/O (io), 100 GND (power), 101 ~{RESET} (oe), 102 VCC (power), 103 DONE~{-PG} (out), 104 D7-I/O (io), 105 XTL1(OUT)-I/O (io), 106 I/O (io), 107 I/O (io), 108 I/O (io), 109 D6-I/O (io), 110 I/O (io), 111 I/O (io), 112 I/O (io), 113 I/O (io), 114 I/O (io), 115 D5-I/O (io), 116 ~{CS}0-I/O (io), 117 I/O (io), 118 I/O (io), 119 I/O (io), 120 I/O (io), 121 D4-I/O (io), 122 I/O (io), 123 VCC (power), 124 GND (power), 125 D3-I/O (io), 126 ~{CS}1-I/O (io), 127 I/O (io), 128 I/O (io), 129 I/O (io), 130 I/O (io), 131 D2-I/O (io), 132 I/O (io), 133 I/O (io), 134 I/O (io), 135 I/O (io), 136 I/O (io), 137 D1-I/O (io), 138 RDY~{/BUSY}-~{ RCLK}-I/O (io), 139 I/O (io), 140 I/O (io), 141 I/O (io), 142 I/O (io), 143 D0-DIN-I/O (io), 144 DOUT-I/O (io), 145 CCLK (io), 146 VCC (power), 147 GND (power), 148 A0~{-WS}-I/O (io), 149 A1-CS2-I/O (io), 150 I/O (io), 151 I/O (io), 152 A2-I/O (io), 153 A3-I/O (io), 154 I/O (io), 155 I/O (io), 156 A15-I/O (io), 157 A4-I/O (io), 158 I/O (io), 159 I/O (io), 160 A14-I/O (io), 161 A5-I/O (io), 162 I/O (io), 163 I/O (io), 164 GND (power)

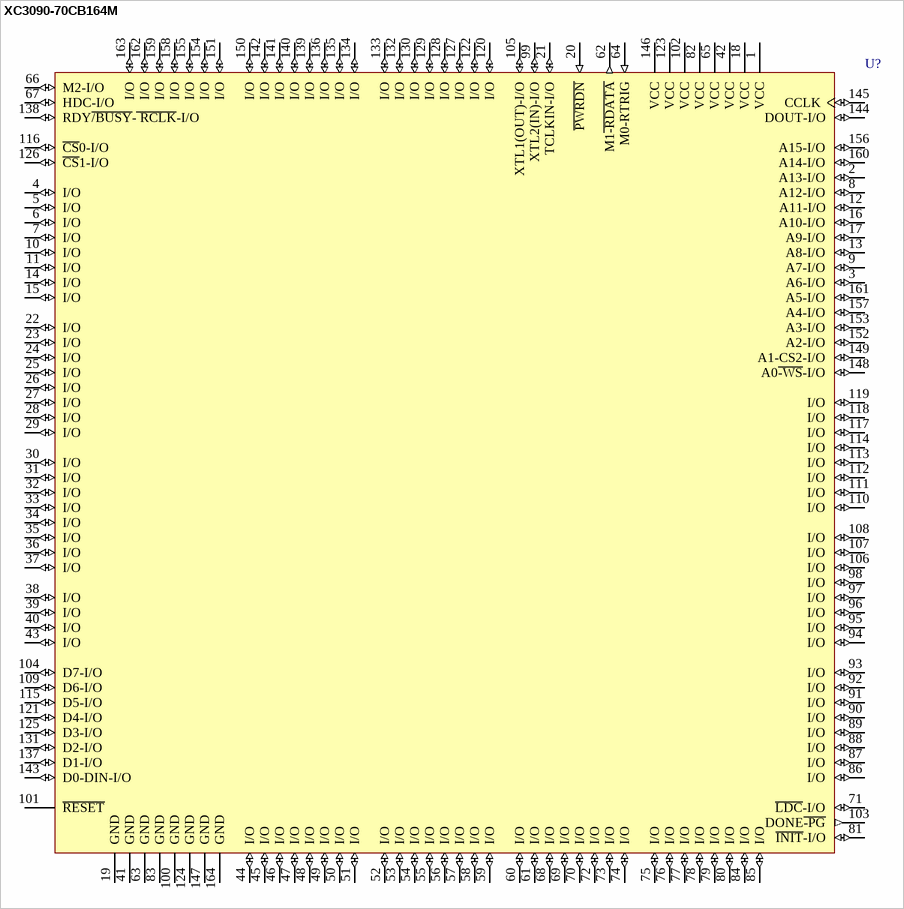
[diagram p84: symbol XC3090-70CB164M]

## XC3090-70CB164M
designator U?
Logic Cell Array with 320 CLBs, with 142 I/O Pins, 164-Pin CQFP, Military Grade; PackageDocument: ver1.0, Jun-2000; Published: 8-Jun-2000; LatestRevisionDate: 17-Jul-2002; LatestRevisionNote: Re-released for DXP Platform.; DatasheetDocument: 1994; PackageReference: CB164; Publisher: Altium Limited
footprint CB164 (164-Pin Ceramic Brazed CQFP (CB164))
pins: 1 VCC (power), 2 A13-I/O (io), 3 A6-I/O (io), 4 I/O (io), 5 I/O (io), 6 I/O (io), 7 I/O (io), 8 A12-I/O (io), 9 A7-I/O (io), 10 I/O (io), 11 I/O (io), 12 A11-I/O (io), 13 A8-I/O (io), 14 I/O (io), 15 I/O (io), 16 A10-I/O (io), 17 A9-I/O (io), 18 VCC (power), 19 GND (power), 20 ~{PWRDN} (in), 21 TCLKIN-I/O (io), 22 I/O (io), 23 I/O (io), 24 I/O (io), 25 I/O (io), 26 I/O (io), 27 I/O (io), 28 I/O (io), 29 I/O (io), 30 I/O (io), 31 I/O (io), 32 I/O (io), 33 I/O (io), 34 I/O (io), 35 I/O (io), 36 I/O (io), 37 I/O (io), 38 I/O (io), 39 I/O (io), 40 I/O (io), 41 GND (power), 42 VCC (power), 43 I/O (io), 44 I/O (io), 45 I/O (io), 46 I/O (io), 47 I/O (io), 48 I/O (io), 49 I/O (io), 50 I/O (io), 51 I/O (io), 52 I/O (io), 53 I/O (io), 54 I/O (io), 55 I/O (io), 56 I/O (io), 57 I/O (io), 58 I/O (io), 59 I/O (io), 60 I/O (io), 61 I/O (io), 62 M1~{-RDATA} (out), 63 GND (power), 64 M0-RTRIG (in), 65 VCC (power), 66 M2-I/O (io), 67 HDC-I/O (io), 68 I/O (io), 69 I/O (io), 70 I/O (io), 71 ~{LDC}-I/O (io), 72 I/O (io), 73 I/O (io), 74 I/O (io), 75 I/O (io), 76 I/O (io), 77 I/O (io), 78 I/O (io), 79 I/O (io), 80 I/O (io), 81 ~{INIT}-I/O (io), 82 VCC (power), 83 GND (power), 84 I/O (io), 85 I/O (io), 86 I/O (io), 87 I/O (io), 88 I/O (io), 89 I/O (io), 90 I/O (io), 91 I/O (io), 92 I/O (io), 93 I/O (io), 94 I/O (io), 95 I/O (io), 96 I/O (io), 97 I/O (io), 98 I/O (io), 99 XTL2(IN)-I/O (io), 100 GND (power), 101 ~{RESET} (oe), 102 VCC (power), 103 DONE~{-PG} (out), 104 D7-I/O (io), 105 XTL1(OUT)-I/O (io), 106 I/O (io), 107 I/O (io), 108 I/O (io), 109 D6-I/O (io), 110 I/O (io), 111 I/O (io), 112 I/O (io), 113 I/O (io), 114 I/O (io), 115 D5-I/O (io), 116 ~{CS}0-I/O (io), 117 I/O (io), 118 I/O (io), 119 I/O (io), 120 I/O (io), 121 D4-I/O (io), 122 I/O (io), 123 VCC (power), 124 GND (power), 125 D3-I/O (io), 126 ~{CS}1-I/O (io), 127 I/O (io), 128 I/O (io), 129 I/O (io), 130 I/O (io), 131 D2-I/O (io), 132 I/O (io), 133 I/O (io), 134 I/O (io), 135 I/O (io), 136 I/O (io), 137 D1-I/O (io), 138 RDY~{/BUSY}-~{ RCLK}-I/O (io), 139 I/O (io), 140 I/O (io), 141 I/O (io), 142 I/O (io), 143 D0-DIN-I/O (io), 144 DOUT-I/O (io), 145 CCLK (io), 146 VCC (power), 147 GND (power), 148 A0~{-WS}-I/O (io), 149 A1-CS2-I/O (io), 150 I/O (io), 151 I/O (io), 152 A2-I/O (io), 153 A3-I/O (io), 154 I/O (io), 155 I/O (io), 156 A15-I/O (io), 157 A4-I/O (io), 158 I/O (io), 159 I/O (io), 160 A14-I/O (io), 161 A5-I/O (io), 162 I/O (io), 163 I/O (io), 164 GND (power)

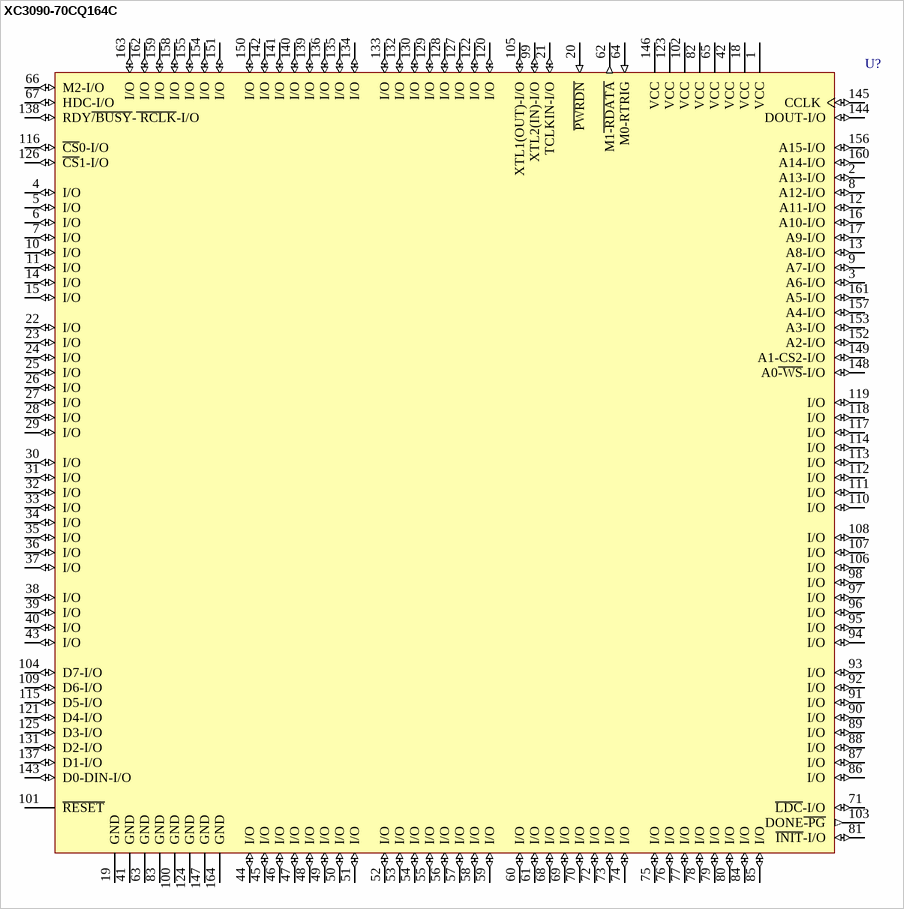
[diagram p85: symbol XC3090-70CQ164C]